# Altium schematic symbol library Evaluation Board.SchLib: 204 symbols (part 1 of 3)
Pins are listed as number, name and electrical type; pins without a type are passive.

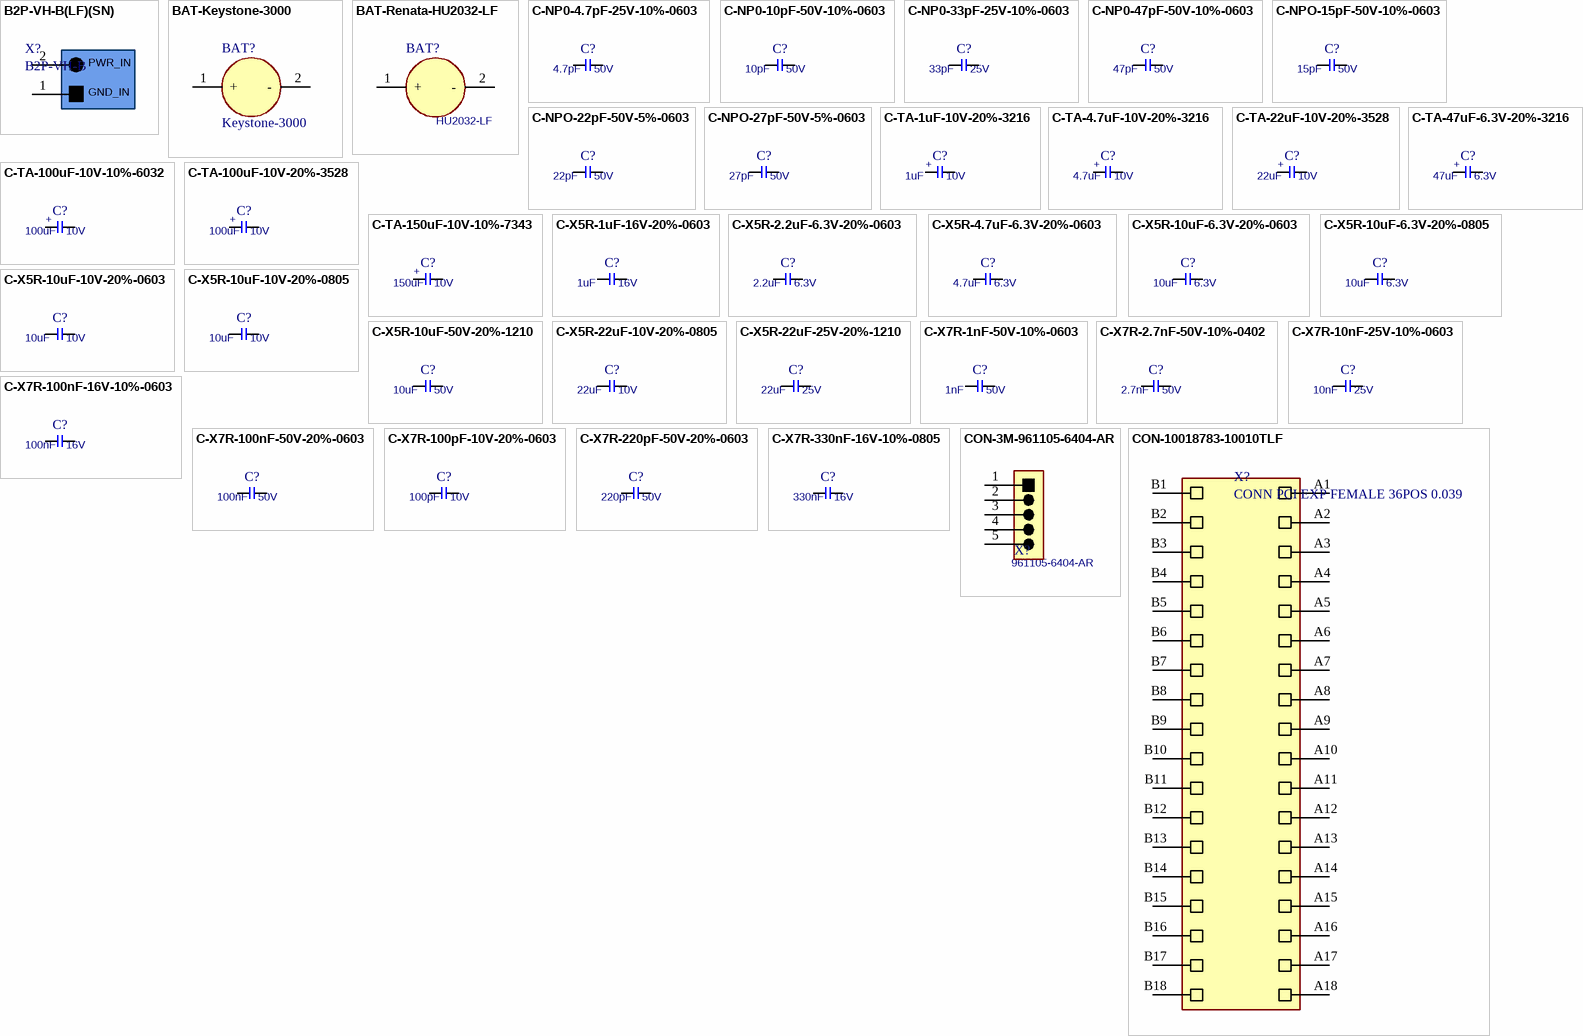
[diagram p0: symbols B2P-VH-B(LF)(SN) to CON-10018783-10010TLF]

## B2P-VH-B(LF)(SN)
designator X?, comment B2P-VH-B
CONN HEADER TOP 2POS 3.96MM VH; Manufacturer Part Number: B2P-VH-B(LF)(SN); Manufacturer: JST; Number of Positions: 2; Connector Type: Male Pin; Pitch: 0.156inch; PCBChecked: initials after Checked; Supplier 1: RSComponents; RoHS: Yes; Category: Connectors; Mount: Through Hole; Color: Natural; Contact Plating: Tin; Termination: Solder; Number of Rows: 1; Fastening Type: Friction,Ramp; Packaging: Bulk; Contact Mating Length: 0.303inch; Lead Free: Lead Free; ComponentLink1URL: https://datasheet.ciiva.com/6853/evh-6853485.pdf?src-supplier=Digi-Key; ComponentLink1Description: https://datasheet.ciiva.com/6853/evh-6853485.pdf?src-supplier=Digi-Key; ComponentLink2URL: https://datasheet.ciiva.com/16358/b2p-vh-blfsn-16358717.pdf?src-supplier=Future+Electronics; ComponentLink2Description: https://datasheet.ciiva.com/16358/b2p-vh-blfsn-16358717.pdf?src-supplier=Future+Electronics; Supplier Part Number 1: 7495193; Pricing 1: 50=0,19300, 500=0,16400, 1250=0,15500, 2500=0,14500, 5000=0,13500 (EUR); IPC7352C: initials after Checked; SCHChecked: initials after Checked
footprint CON-B2P-VH-B-3.96mm (Power Connector 3.96mm pitch)
pins: 1 GND_IN, 2 PWR_IN

## BAT-Keystone-3000
designator BAT?, comment Keystone-3000
Battery Holder; Manufacturer Part No.: 3000; PCBChecked: initials after Checked; Manufacturer Name: Keystone; IPC7352C: initials after Checked; SCHChecked: initials after Checked
footprint T_Keystone_3000 (Battery Holder)
pins: 1 +, 2 -

## BAT-Renata-HU2032-LF
designator BAT?, comment HU2032-LF
C2032 Battery Holder; Manufacturer Name: Renata; PCBChecked: initials after Checked; Manufacturer Part No.: HU2032-LF; IPC7352C: initials after Checked; SCHChecked: initials after Checked
footprint T_Renata_HU2032-LF (Battery Holder)
pins: 1 +, 2 -

## C-NP0-4.7pF-25V-10%-0603
designator C?, comment Rating: 50V  (hidden comment: 4.7pF)
Capacitor Ceramic NP0  4.7pF 25V 10% 0603; PCBChecked: initials after Checked; Tolerance: 10%; Type: NP0; Value: 4.7pF; IPC7352C: initials after Checked; SCHChecked: initials after Checked
footprint T_CAPC0603X33N
pins: 1, 2

## C-NP0-10pF-50V-10%-0603
designator C?, comment Rating: 50V  (hidden comment: 10pF)
Capacitor Ceramic NP0 10pF 50V 10% 0603; PCBChecked: initials after Checked; Tolerance: 10%; Type: NP0; Value: 10pF; IPC7352C: initials after Checked; SCHChecked: initials after Checked
footprint T_CAPC0603X33N
pins: 1, 2

## C-NP0-33pF-25V-10%-0603
designator C?, comment Rating: 25V  (hidden comment: 33pF)
Capacitor Ceramic NP0 33pF 25V 10% 0603; PCBChecked: initials after Checked; Tolerance: 10%; Type: NP0; IPC7352C: initials after Checked; SCHChecked: initials after Checked; Value: 33pF
footprint T_CAPC0603X33N
pins: 1, 2

## C-NP0-47pF-50V-10%-0603
designator C?, comment Rating: 50V  (hidden comment: 47pF)
Capacitor Ceramic NP0 47pF 50V 10% 0603; PCBChecked: initials after Checked; Tolerance: 10%; Type: NP0; Value: 47pF; IPC7352C: initials after Checked; SCHChecked: initials after Checked
footprint T_CAPC0603X33N
pins: 1, 2

## C-NPO-15pF-50V-10%-0603
designator C?, comment Rating: 50V  (hidden comment: 15pF)
Capacitor Ceramic NPO 15pF 50V 10% 0603; PCBChecked: initials after Checked; Tolerance: 10%; Type: NPO; IPC7352C: initials after Checked; SCHChecked: initials after Checked; Value: 15pF
footprint T_CAPC0603X33N
pins: 1, 2

## C-NPO-22pF-50V-5%-0603
designator C?, comment Rating: 50V  (hidden comment: 22pF)
Capacitor Ceramic NPO 22pF 50V 5% 0603; PCBChecked: initials after Checked; Tolerance: 5%; Type: NPO; Value: 22pF; IPC7352C: initials after Checked; SCHChecked: initials after Checked
footprint T_CAPC0603X33N
pins: 1, 2

## C-NPO-27pF-50V-5%-0603
designator C?, comment Rating: 50V  (hidden comment: 27pF)
Capacitor Ceramic NPO 27pF 50V 5% 0603; PCBChecked: initials after Checked; Tolerance: 5%; Type: NPO; Value: 27pF; IPC7352C: initials after Checked; SCHChecked: initials after Checked
footprint T_CAPC0603X33N
pins: 1, 2

## C-TA-1uF-10V-20%-3216
designator C?, comment Rating: 10V  (hidden comment: 1uF)
Capacitor TA 1uF 10V 20% 3216; PCBChecked: initials after Checked; Tolerance: 20%; Type: TA; Value: 1uF; IPC7352C: initials after Checked; SCHChecked: initials after Checked
footprint T_CAPMP3216X180N
pins: 1, 2
text: +

## C-TA-4.7uF-10V-20%-3216
designator C?, comment Rating: 10V  (hidden comment: 4.7uF)
Capacitor TA 4.7uF 10V 20% 3216; PCBChecked: initials after Checked; Tolerance: 20%; Type: TA; IPC7352C: initials after Checked; SCHChecked: initials after Checked; Value: 4.7uF
footprint T_CAPMP3216X180N
pins: 1, 2
text: +

## C-TA-22uF-10V-20%-3528
designator C?, comment Rating: 10V  (hidden comment: 22uF)
Capacitor TA 22uF 10V 20% 3528; PCBChecked: initials after Checked; Tolerance: 20%; Type: TA; IPC7352C: initials after Checked; SCHChecked: initials after Checked; Value: 22uF
footprint CAPMP3528X210N
pins: 1, 2
text: +

## C-TA-47uF-6.3V-20%-3216
designator C?, comment Rating: 6.3V  (hidden comment: 47uF)
Capacitor TA 47uF 6.3V 20% 3216; PCBChecked: initials after Checked; Tolerance: 20%; Type: TA; IPC7352C: initials after Checked; SCHChecked: initials after Checked; Value: 47uF
footprint CAPMP3528X210N
pins: 1, 2
text: +

## C-TA-100uF-10V-10%-6032
designator C?, comment Rating: 10V  (hidden comment: 100uF)
Capacitor TA 100uF 10V 10% 6032; PCBChecked: initials after Checked; Tolerance: 10%; Type: TA; Value: 100uF; IPC7352C: initials after Checked; SCHChecked: initials after Checked
footprint CAPMP6032X280N (Cap Polarized 6032)
pins: 1, 2
text: +

## C-TA-100uF-10V-20%-3528
designator C?, comment Rating: 10V  (hidden comment: 100uF)
Capacitor TA 100uF 10V 20% 3528; PCBChecked: initials after Checked; Tolerance: 20%; Type: TA; IPC7352C: initials after Checked; SCHChecked: initials after Checked; Value: 100uF
footprint CAPMP3528X210N
pins: 1, 2
text: +

## C-TA-150uF-10V-10%-7343
designator C?, comment Rating: 10V  (hidden comment: 150uF)
Capacitor TA 150uF 10V 20% 7343; Tolerance: 10%; PCBChecked: initials after Checked; Type: TA; IPC7352C: initials after Checked; SCHChecked: initials after Checked; Value: 150uF
footprint CAPMP7343X310N
pins: 1, 2
text: +

## C-X5R-1uF-16V-20%-0603
designator C?, comment Rating: 16V  (hidden comment: 1uF)
Capacitor Ceramic X5R 1uF 16V 20% 0603; PCBChecked: initials after Checked; Tolerance: 20%; Type: X5R; Value: 1uF; IPC7352C: initials after Checked; SCHChecked: initials after Checked
footprint T_CAPC0603X33N
pins: 1, 2

## C-X5R-2.2uF-6.3V-20%-0603
designator C?, comment Rating: 6.3V  (hidden comment: 2.2uF)
Capacitor Ceramic X5R 2.2uF 6.3V 20% 0603; PCBChecked: initials after Checked; Tolerance: 20%; Type: X5R; Value: 2.2uF; IPC7352C: initials after Checked; SCHChecked: initials after Checked
footprint T_CAPC0603X33N
pins: 1, 2

## C-X5R-4.7uF-6.3V-20%-0603
designator C?, comment Rating: 6.3V  (hidden comment: 4.7uF)
Capacitor Ceramic X5R 4.7uF 6.3V 20% 0603; PCBChecked: initials after Checked; Tolerance: 20%; Type: X5R; Value: 4.7uF; IPC7352C: initials after Checked; SCHChecked: initials after Checked
footprint T_CAPC0603X33N
pins: 1, 2

## C-X5R-10uF-6.3V-20%-0603
designator C?  value 10uF  Rating: 6.3V
Capacitor Ceramic X5R 10uF 6.3V 20% 0603; PCBChecked: initials after Checked; Tolerance: 20%; Type: X5R; IPC7352C: initials after Checked; SCHChecked: initials after Checked
footprint T_CAPC0603X33N
pins: 1, 2

## C-X5R-10uF-6.3V-20%-0805
designator C?, comment Rating: 6.3V  (hidden comment: 10uF)
Capacitor Ceramic X5R 10uF 6.3V 20% 0805; PCBChecked: initials after Checked; Tolerance: 20%; Type: X5R; Value: 10uF; IPC7352C: initials after Checked; SCHChecked: initials after Checked
footprint T_CAPC0805X125N
pins: 1, 2

## C-X5R-10uF-10V-20%-0603
designator C?  value 10uF  Rating: 10V
Capacitor Ceramic X5R 10uF 10V 20% 0603; PCBChecked: initials after Checked; Tolerance: 20%; Type: X5R; IPC7352C: initials after Checked; SCHChecked: initials after Checked
footprint T_CAPC0603X33N
pins: 1, 2

## C-X5R-10uF-10V-20%-0805
designator C?, comment Rating: 10V  (hidden comment: 10uF)
Capacitor Ceramic X5R 10uF 10V 20% 0805; PCBChecked: initials after Checked; Tolerance: 20%; Type: X5R; IPC7352C: initials after Checked; SCHChecked: initials after Checked; Value: 10uF
footprint T_CAPC0805X125N
pins: 1, 2

## C-X5R-10uF-50V-20%-1210
designator C?, comment Rating: 50V  (hidden comment: 10uF)
Capacitor Ceramic X5R 10uF 50V 20% 1210; PCBChecked: initials after Checked; Tolerance: 20%; Type: X5R; Value: 10uF; IPC7352C: initials after Checked; SCHChecked: initials after Checked
footprint CAPC3225X160N
pins: 1, 2

## C-X5R-22uF-10V-20%-0805
designator C?, comment Rating: 10V  (hidden comment: 22uF)
Capacitor Ceramic X5R 22uF 10V 20% 0805; PCBChecked: initials after Checked; Tolerance: 20%; Type: X5R; Value: 22uF; IPC7352C: initials after Checked; SCHChecked: initials after Checked
footprint T_CAPC0805X125N
pins: 1, 2

## C-X5R-22uF-25V-20%-1210
designator C?, comment Rating: 25V  (hidden comment: 22uF)
Capacitor Ceramic X5R 22uF 25V 20% 1210; PCBChecked: initials after Checked; Tolerance: 20%; Type: X5R; Value: 22uF; IPC7352C: initials after Checked; SCHChecked: initials after Checked
footprint CAPC3225X160N
pins: 1, 2

## C-X7R-1nF-50V-10%-0603
designator C?, comment Rating: 50V  (hidden comment: 1nF)
Capacitor Ceramic X7R 1nF 50V 10% 0603; PCBChecked: initials after Checked; Tolerance: 10%; Type: X7R; Value: 1nF; IPC7352C: initials after Checked; SCHChecked: initials after Checked
footprint T_CAPC0603X33N
pins: 1, 2

## C-X7R-2.7nF-50V-10%-0402
designator C?, comment Rating: 50V  (hidden comment: 2.7nF)
Capacitor Ceramic X7R 2.7nF 50V 10% 0402; PCBChecked: initials after Checked; Tolerance: 10%; Type: X7R; Value: 2.7nF; IPC7352C: initials after Checked; SCHChecked: initials after Checked
footprint CAPC1005X60N
pins: 1, 2

## C-X7R-10nF-25V-10%-0603
designator C?, comment Rating: 25V  (hidden comment: 10nF)
Capacitor Ceramic X7R 10nF 25V 10% 0603; PCBChecked: initials after Checked; Tolerance: 10%; Type: X7R; Value: 10nF; IPC7352C: initials after Checked; SCHChecked: initials after Checked
footprint T_CAPC0603X33N
pins: 1, 2

## C-X7R-100nF-16V-10%-0603
designator C?, comment Rating: 16V  (hidden comment: 100nF)
Capacitor Ceramic X7R 100nF 16V 10% 0603; PCBChecked: initials after Checked; Tolerance: 10%; Type: X7R; Value: 100nF; IPC7352C: initials after Checked; SCHChecked: initials after Checked
footprint T_CAPC0603X33N
pins: 1, 2

## C-X7R-100nF-50V-20%-0603
designator C?, comment Rating: 50V  (hidden comment: 100nF)
Capacitor Ceramic X7R 100nF 50V 20% 0603; PCBChecked: initials after Checked; Tolerance: 20%; Type: X7R; Value: 100nF; IPC7352C: initials after Checked; SCHChecked: initials after Checked
footprint T_CAPC0603X33N
pins: 1, 2

## C-X7R-100pF-10V-20%-0603
designator C?, comment Rating: 10V  (hidden comment: 100pF)
Capacitor Ceramic X7R 100pF 10V 20% 0603; PCBChecked: initials after Checked; Tolerance: 20%; Type: X7R; Value: 100pF; IPC7352C: initials after Checked; SCHChecked: initials after Checked
footprint T_CAPC0603X33N
pins: 1, 2

## C-X7R-220pF-50V-20%-0603
designator C?, comment Rating: 50V  (hidden comment: 220pF)
Capacitor Ceramic X7R 220pF 50V 20% 0603; PCBChecked: initials after Checked; Tolerance: 20%; Type: X7R; Value: 220pF; IPC7352C: initials after Checked; SCHChecked: initials after Checked
footprint T_CAPC0603X33N
pins: 1, 2

## C-X7R-330nF-16V-10%-0805
designator C?, comment Rating: 16V  (hidden comment: 330nF)
Capacitor Ceramic X7R 330nF 16V 10% 0805; PCBChecked: initials after Checked; Tolerance: 10%; Type: X7R; IPC7352C: initials after Checked; SCHChecked: initials after Checked; Value: 330nF
footprint T_CAPC0805X125N
pins: 1, 2

## CON-3M-961105-6404-AR
designator X?, comment 961105-6404-AR
Audio Header 5 pins 2.54mm; Manufacturer Name: 3M; No. of ways: 1X5; PCBChecked: initials after Checked; Pitch: 2.54mm; IPC7352C: initials after Checked; SCHChecked: initials after Checked; Manufacturer Part No.: 961105-6404-AR
footprint T_3M_961105-6404-AR (Connector; Header; 35 Position)
pins: 1, 2, 3, 4, 5

## CON-10018783-10010TLF
designator X?, comment CONN PCI EXP FEMALE 36POS 0.039
Manufacturer Part Number: 10018783-10010TLF; Manufacturer: Amphenol FCI; Current Rating: 1.1A; Voltage Rating (AC): 300V; Number of Positions: 36; Insulation Resistance: 1GR; Connector Type: Cantilever; Pitch: 2mm; Board Thickness: 2.36mm; Card Thickness: 0.062inch; PCBChecked: initials after Checked; Supplier 1: Digi-Key; RoHS: Yes; Category: Card Edge Connectors; Mount: Through Hole; Contact Plating: Gold,Tin,Matte; Contact Material: Copper Alloy; Color: Black; Housing Color: Black; Housing Material: Nylon; Insulation Material: Nylon; Min Operating Temperature: -55°C; Max Operating Temperature: 85°C; Number of Rows: 2; Packaging: Tray; Package Quantity: 70; Gender: Female; Termination: Solder; Max Voltage Rating (AC): 300V; Orientation: Straight; Length: 25mm; Width: 7.4mm; Lead Free: Lead Free; Flammability Rating: UL94 V-0; ComponentLink1URL: https://datasheet.ciiva.com/12534/gs-12-233-532843-12534444.pdf?src-supplier=Mouser; ComponentLink1Description: https://datasheet.ciiva.com/12534/gs-12-233-532843-12534444.pdf?src-supplier=Mouser; ComponentLink2URL: https://datasheet.ciiva.com/417/10018783-417663.pdf?src-supplier=Digi-Key; ComponentLink2Description: https://datasheet.ciiva.com/417/10018783-417663.pdf?src-supplier=Digi-Key; ComponentLink3URL: https://datasheet.ciiva.com/3099/10018783-3099391.pdf?src-supplier=Avnet; ComponentLink3Description: https://datasheet.ciiva.com/3099/10018783-3099391.pdf?src-supplier=Avnet; Supplier Part Number 1: 609-1964-ND; Stock 1: 32064; IPC7352C: initials after Checked; SCHChecked: initials after Checked
footprint 10018783-10010TLF (CONN PCI EXP FEMALE 36POS 0.039)
pins: A1, A2, A3, A4, A5, A6, A7, A8, A9, A10, A11, A12, A13, A14, A15, A16, A17, A18, B1, B2, B3, B4, B5, B6, B7, B8, B9, B10, B11, B12, B13, B14, B15, B16, B17, B18

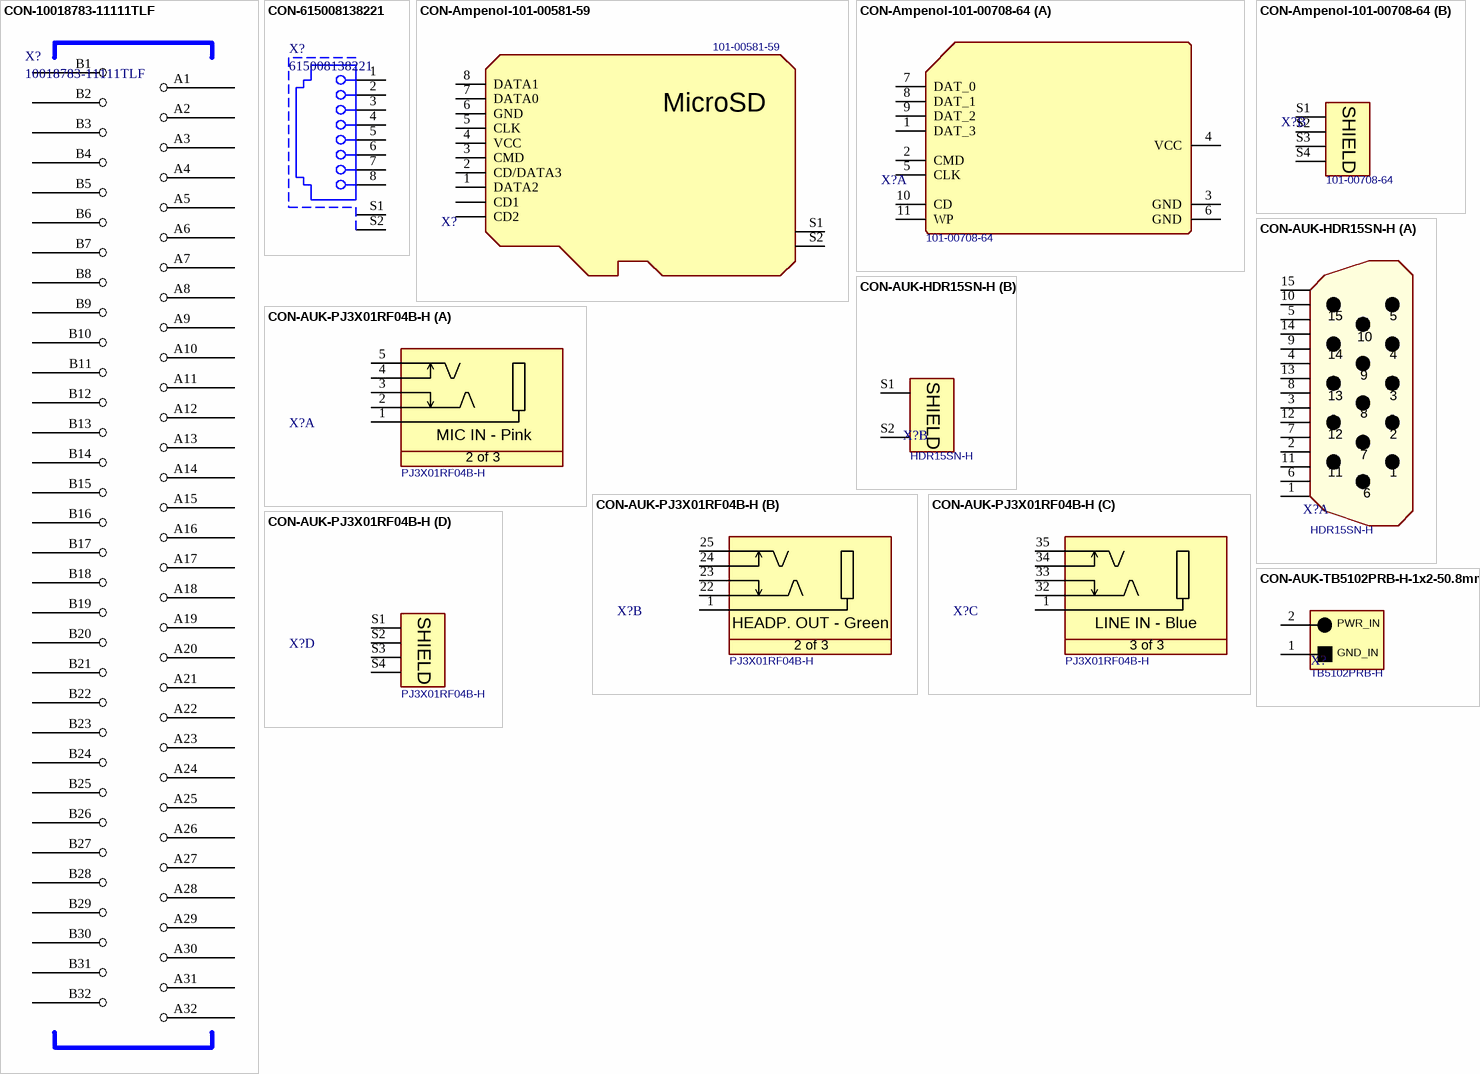
[diagram p1: symbols CON-10018783-11111TLF to CON-AUK-TB5102PRB-H-1x2-50.8mm]

## CON-10018783-11111TLF
designator X?, comment 10018783-11111TLF
AMPHENOL ICC (FCI) - 10018783-11111TLF - CONNECTOR, PCI, 2X32WAY; Manufacturer: Amphenol FCI; Number of Contacts: 64; Gender: Female; Current Rating: 1.1A; Voltage Rating (AC): 300V; Contact Resistance: 30mR; Mating Cycles: 50; Insulation Resistance: 1GR; Connector Type: Cantilever; Pitch: 2mm; Board Thickness: 2.36mm; Pin Length: 3.1mm; Card Thickness: 0.062inch; PCBChecked: initials after Checked; Supplier 1: Digi-Key; Manufacturer Part Number: 10018783-11111TLF; RoHS: Yes; Category: Card Edge Connectors; Mount: Through Hole,PCB; Contact Plating: Gold,Tin,Matte; Contact Material: Copper Alloy; Color: Black; Material: Nylon,Glass; Housing Color: Black; Insulation Material: Nylon; Housing Material: Nylon; Min Operating Temperature: -55°C; Max Operating Temperature: 85°C; Number of Rows: 2; Termination: Solder; Package Quantity: 60; Packaging: Tray; Number of Positions: 64; Max Voltage Rating (AC): 300V; Orientation: Straight; Length: 39mm; Height: 11.25mm; Lead Pitch: 1mm; Width: 11.25mm; Depth: 8.8mm; Row Spacing: 2mm; Tail Length: 2.36mm; REACH SVHC: No SVHC; Lead Free: Lead Free; Flammability Rating: UL94 V-0; ComponentLink1URL: https://datasheet.ciiva.com/11732/0900766b807b50f6-11732962.pdf?src-supplier=RSComponents; ComponentLink1Description: https://datasheet.ciiva.com/11732/0900766b807b50f6-11732962.pdf?src-supplier=RSComponents; ComponentLink2URL: https://datasheet.ciiva.com/14636/0900766b807b50f6-14636453.pdf?src-supplier=Allied+Electronics; ComponentLink2Description: https://datasheet.ciiva.com/14636/0900766b807b50f6-14636453.pdf?src-supplier=Allied+Electronics; ComponentLink3URL: https://datasheet.ciiva.com/417/10018783-417603.pdf?src-supplier=Digi-Key; ComponentLink3Description: https://datasheet.ciiva.com/417/10018783-417603.pdf?src-supplier=Digi-Key; ComponentLink4URL: https://datasheet.ciiva.com/5671/gs-12-233-532843-5671048.pdf?src-supplier=Mouser; ComponentLink4Description: https://datasheet.ciiva.com/5671/gs-12-233-532843-5671048.pdf?src-supplier=Mouser; ComponentLink5URL: https://datasheet.ciiva.com/16666/10018783-16666568.pdf?src-supplier=Avnet+Europe; ComponentLink5Description: https://datasheet.ciiva.com/16666/10018783-16666568.pdf?src-supplier=Avnet+Europe; ComponentLink6URL: https://datasheet.ciiva.com/3099/10018783-3099434.pdf?src-supplier=Avnet; ComponentLink6Description: https://datasheet.ciiva.com/3099/10018783-3099434.pdf?src-supplier=Avnet; Supplier Part Number 1: 609-1996-ND; Stock 1: 3867; IPC7352C: initials after Checked; SCHChecked: initials after Checked
footprint 10018783-11111TLF _kor (CONN PCI EXP FEMALE 64POS 0.039)
pins: A1, A2, A3, A4, A5, A6, A7, A8, A9, A10, A11, A12, A13, A14, A15, A16, A17, A18, A19, A20, A21, A22, A23, A24, A25, A26, A27, A28, A29, A30, A31, A32, B1, B2, B3, B4, B5, B6, B7, B8, B9, B10, B11, B12, B13, B14, B15, B16, B17, B18, B19, B20, B21, B22, B23, B24, B25, B26, B27, B28, B29, B30, B31, B32

## CON-615008138221
designator X?, comment 615008138221
WURTH ELEKTRONIK - 615008138221 - JACK, RJ45, VERT, 8P8C, SHIELDED; Manufacturer: Wurth Electronics; Number of Ports: 1; Direction: User Selectable; Connector Type: Jack,RJ45,Socket; Number of Contacts: 8; Gender: Female; Current Rating: 1.5A; Mating Cycles: 500; Voltage Rating: 125V; Supplier 1: Digi-Key; Manufacturer Part Number: 615008138221; RoHS: Yes; Category: Connectors; Mount: Through Hole; Contact Material: Copper Alloy,Copper; Housing Material: PBT; Contact Plating: Gold; Color: Black; Min Operating Temperature: -40°C; Max Operating Temperature: 85°C; Termination: Through Hole; Package Quantity: 80; Number of Rows: 1; Shielding: Shielded; Packaging: Tray; Number of Positions: 8; Orientation: Vertical; Length: 16.65mm; Height: 16.65mm; Depth: 16.4mm; Width: 15.9mm; REACH SVHC: Unknown; ComponentLink1URL: https://datasheet.ciiva.com/685/615008138221-685840.pdf?src-supplier=Digi-Key; ComponentLink1Description: https://datasheet.ciiva.com/685/615008138221-685840.pdf?src-supplier=Digi-Key; ComponentLink2URL: https://datasheet.ciiva.com/11726/0900766b80f88675-11726117.pdf?src-supplier=RSComponents; ComponentLink2Description: https://datasheet.ciiva.com/11726/0900766b80f88675-11726117.pdf?src-supplier=RSComponents; ComponentLink3URL: https://datasheet.ciiva.com/4561/615008138221-83706-4561590.pdf?src-supplier=Mouser; ComponentLink3Description: https://datasheet.ciiva.com/4561/615008138221-83706-4561590.pdf?src-supplier=Mouser; ComponentLink4URL: https://datasheet.ciiva.com/1108/1666696-1108142.pdf?src-supplier=Element14; ComponentLink4Description: https://datasheet.ciiva.com/1108/1666696-1108142.pdf?src-supplier=Element14; ComponentLink5URL: https://datasheet.ciiva.com/48689/001088217-da-01-en-wr-com-modular-jack-615008138221-48689543.pdf?src-supplier=Conrad; ComponentLink5Description: https://datasheet.ciiva.com/48689/001088217-da-01-en-wr-com-modular-jack-615008138221-48689543.pdf?src-supplier=Conrad; Supplier Part Number 1: 732-2743-ND; Stock 1: 4282
footprint RJ45-V-615008138221 (RJ45 Vertical  Shielded)
pins: 1, 2, 3, 4, 5, 6, 7, 8, S1, S2

## CON-Ampenol-101-00581-59
designator X?, comment Manufacturer Part No.: 101-00581-59  (hidden comment: MicroSD Holder)
Micro SD Holder Push Push CD; Manufacturer Name: Ampenol; No. of ways: 9; PCBChecked: initials after Checked; IPC7352C: initials after Checked; SCHChecked: initials after Checked
footprint T_Ampenol_101-00581-59 (MicroSD Holder top-loading type)
pins: 1 DATA2 (power), 2 CD/DATA3, 3 CMD, 4 VCC, 5 CLK (power), 6 GND (power), 7 DATA0 (power), 8 DATA1 (power), CD1 (power), CD2 (power), S1 S, S2 S
text: MicroSD

## CON-Ampenol-101-00708-64
designator X?, comment Manufacturer Part No.: 101-00708-64  (hidden comment: MicroSD Holder)
SD/MMC Card Holder; Manufacturer Name: Ampenol; No. of ways: 9; PCBChecked: initials after Checked; IPC7352C: initials after Checked; SCHChecked: initials after Checked
footprint T_ AMPHENOL_101-00708-64 (SD/MMC Card Holder)
part A pins: 1 DAT_3 (power), 2 CMD, 3 GND, 4 VCC, 5 CLK (power), 6 GND (power), 7 DAT_0 (power), 8 DAT_1 (power), 9 DAT_2 (power), 10 CD (power), 11 WP (power)
part B pins: S1 S, S2 S, S3 S, S4 S
part B text: SHIELD

## CON-AUK-HDR15SN-H
designator X?, comment HDR15SN-H
15 pin male D-SUB connector; Manufacturer Name: AUK; No. of ways: 15; PCBChecked: initials after Checked; IPC7352C: initials after Checked; SCHChecked: initials after Checked; Manufacturer Part No.: HDR15SN-H
footprint T_AUK_HDR15SN-H (15 pin male D-SUB connector)
part A pins: 1 DCD, 2 RXD, 3 TXD, 4 DTR, 5 GND, 6 DSR, 7 RTS, 8 CTS, 9 RI, 10 RI, 11 RI, 12 RI, 13 RI, 14 RI, 15 RI
part B pins: S1 SHIELD, S2 SHIELD

## CON-AUK-PJ3X01RF04B-H
designator X?, comment Manufacturer Part No.: PJ3X01RF04B-H  (hidden comment: AUK-PJ3X01RF04B-H)
3x Audiojack stereo, 3.5mm; Manufacturer Name: AUK; No. of ways: 13; PCBChecked: initials after Checked; IPC7352C: initials after Checked; SCHChecked: initials after Checked
footprint T_AUK_PJ3X01RF04B-H (Audio Jack Triple Stacked DIP Type)
part A pins: 1, 2, 3, 4, 5
part B pins: 1, 22, 23, 24, 25
part C pins: 1, 32, 33, 34, 35
part D pins: S1 SHIELD, S2 SHIELD, S3 SHIELD, S4 SHIELD
part A text: MIC IN - Pink; 2 of 3
part B text: HEADP. OUT - Green; 2 of 3
part C text: LINE IN - Blue; 3 of 3

## CON-AUK-TB5102PRB-H-1x2-50.8mm
designator X?, comment TB5102PRB-H
Power Connector; Manufacturer Name: AUK; No. of ways: 1x2; Pitch: 5.08mm; PCBChecked: initials after Checked; IPC7352C: initials after Checked; SCHChecked: initials after Checked; Manufacturer Part No.: TB5102PRB-H
footprint T_AUK_TB5102PRB-H (Power Connector 5.08mm pitch)
pins: 1 GND_IN, 2 PWR_IN

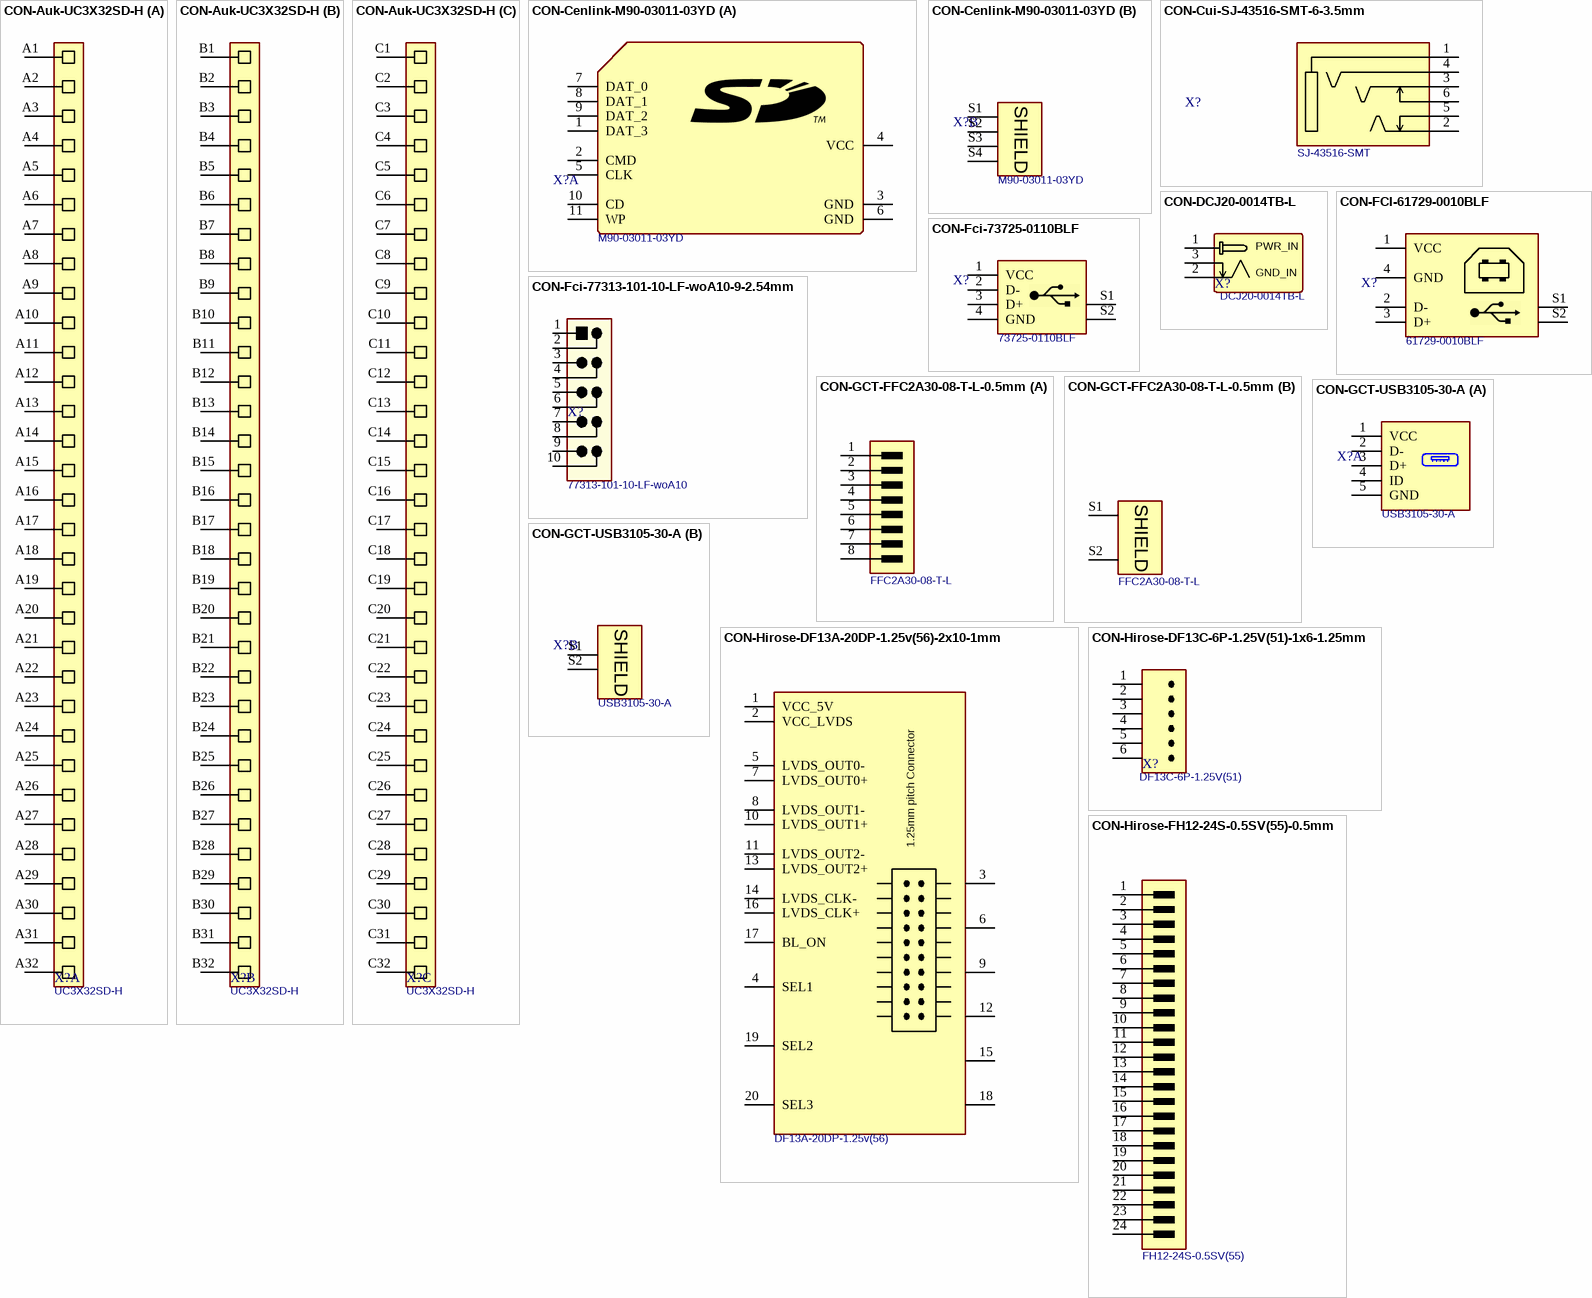
[diagram p2: symbols CON-Auk-UC3X32SD-H to CON-Hirose-FH12-24S-0.5SV(55)-0.5mm]

## CON-Auk-UC3X32SD-H
designator X?, comment UC3X32SD-H
Header Female 3x32 pin 2.54mm; Manufacturer Name: Auk; PCBChecked: initials after Checked; Pitch: 2.54mm; No. of ways: 3x32; IPC7352C: initials after Checked; SCHChecked: initials after Checked; Manufacturer Part No.: UC3X32SD-H
footprint T_AUK_UC3X32SD-H (Header, 3x32 Pins, 2.54 mm pitch)
part A pins: A1, A2, A3, A4, A5, A6, A7, A8, A9, A10, A11, A12, A13, A14, A15, A16, A17, A18, A19, A20, A21, A22, A23, A24, A25, A26, A27, A28, A29, A30, A31, A32
part B pins: B1, B2, B3, B4, B5, B6, B7, B8, B9, B10, B11, B12, B13, B14, B15, B16, B17, B18, B19, B20, B21, B22, B23, B24, B25, B26, B27, B28, B29, B30, B31, B32
part C pins: C1, C2, C3, C4, C5, C6, C7, C8, C9, C10, C11, C12, C13, C14, C15, C16, C17, C18, C19, C20, C21, C22, C23, C24, C25, C26, C27, C28, C29, C30, C31, C32

## CON-Cenlink-M90-03011-03YD
designator X?, comment Manufacturer Part No.: M90-03011-03YD  (hidden comment: MicroSD Holder)
SD/MMC Card Holder; Manufacturer Name: Cenlink; No. of ways: 9+2; PCBChecked: initials after Checked; IPC7352C: initials after Checked; SCHChecked: initials after Checked
footprint T_ AMPHENOL_101-00708-64 (SD/MMC Card Holder)
part A pins: 1 DAT_3 (power), 2 CMD, 3 GND, 4 VCC, 5 CLK (power), 6 GND (power), 7 DAT_0 (power), 8 DAT_1 (power), 9 DAT_2 (power), 10 CD (power), 11 WP (power)
part B pins: S1 S, S2 S, S3 S, S4 S
part B text: SHIELD

## CON-Cui-SJ-43516-SMT-6-3.5mm
designator X?, comment SJ-43516-SMT
3.5mm Stereo Jack SMD With Detect Contact; Manufacturer Name: Cui INC; No. of ways: 6; PCBChecked: initials after Checked; IPC7352C: initials after Checked; SCHChecked: initials after Checked; Manufacturer Part No.: SJ-43516-SMT
footprint T_CI_SJ-43516-SMT (STEREO_3.5mm AUDIO JACK  CUI)
pins: 1, 2, 3, 4, 5, 6

## CON-DCJ20-0014TB-L
designator X?, comment DCJ20-0014TB-L
Power Jack; PCBChecked: initials after Checked; IPC7352C: initials after Checked; SCHChecked: initials after Checked; Manufacturer Part No.: DCJ20-0014TB-L
footprint T_DCJ20-0014TB-L (Header, 1x2 Pins, 2.54 mm pitch, male)
pins: 1 GND_IN, 2 PWR_IN, 3 PWR_IN

## CON-FCI-61729-0010BLF
designator X?, comment 61729-0010BLF
USB Type B Connector; Manufacturer Name: FCI; No. of ways: 4; PCBChecked: initials after Checked; IPC7352C: initials after Checked; SCHChecked: initials after Checked; Manufacturer Part No.: 61729-0010BLF
footprint T_FCI_61729-0010BLF (USB Type B Connectors)
pins: 1 VCC (power), 2 D-, 3 D+, 4 GND (power), S1, S2

## CON-Fci-73725-0110BLF
designator X?  Manufacturer Part No.: 73725-0110BLF
USB Type A Connector; Manufacturer Name: FCI; No. of ways: 4; PCBChecked: initials after Checked; IPC7352C: initials after Checked; SCHChecked: initials after Checked
footprint T_FCI_73725-0110BLF (USB Type A Connector Vertical)
pins: 1 VCC (power), 2 D-, 3 D+, 4 GND (power), S1, S2

## CON-Fci-77313-101-10-LF-woA10-9-2.54mm
designator X?, comment 77313-101-10-LF-woA10
RS232 Header; Manufacturer Name: FCI; No. of ways: 9; PCBChecked: initials after Checked; IPC7352C: initials after Checked; SCHChecked: initials after Checked; Manufacturer Part No.: 77313-101-10-LF-woA10
footprint T_FCI_77313-101-10-LF-woA10 (2.54 mm header)
pins: 1, 2, 3, 4, 5, 6, 7, 8, 9, 10

## CON-GCT-FFC2A30-08-T-L-0.5mm
designator X?, comment FFC2A30-08-T-L
0.50mm Pitch FFC/FPC JTAG Connector Vertical; Manufacturer Name: GCT; No. of ways: 8; Pitch: 0.5mm; PCBChecked: initials after Checked; IPC7352C: initials after Checked; SCHChecked: initials after Checked; Manufacturer Part No.: FFC2A30-08-T-L
footprint T_GCT_FFC2A30-08-T-L (JTAG FFC Connector 0.5mm pitch vertical)
part A pins: 1, 2, 3, 4, 5, 6, 7, 8
part B pins: S1 SHIELD, S2 SHIELD

## CON-GCT-USB3105-30-A
designator X?  Manufacturer Part No.: USB3105-30-A
Micro USB OTG Connector - TH - Vertical; Manufacturer Name: GCT; No. of ways: 5; PCBChecked: initials after Checked; IPC7352C: initials after Checked; SCHChecked: initials after Checked
footprint T_GCT_USB3105-30-A (Micro USB Connector Vertical)
part A pins: 1 VCC (power), 2 D-, 3 D+, 4 ID, 5 GND (power)
part B pins: S1 SHIELD, S2 SHIELD

## CON-Hirose-DF13A-20DP-1.25v(56)-2x10-1mm
designator X?  Manufacturer Part No.: DF13A-20DP-1.25v(56)  (hidden comment: CON-Hirose-DF13A-20DP-1.25v(56)-2x10-1mm)
LVDS Connector; Manufacturer Name: Hirose; No. of ways: 2x10; Pitch: 1mm; PCBChecked: initials after Checked; IPC7352C: initials after Checked; SCHChecked: initials after Checked
footprint T_HIROSE_DF13A-20DP-1.25V(56)
pins: 1 VCC_5V, 2 VCC_LVDS, 3 GND, 4 SEL1, 5 LVDS_OUT0-, 6 GND, 7 LVDS_OUT0+, 8 LVDS_OUT1-, 9 GND, 10 LVDS_OUT1+, 11 LVDS_OUT2-, 12 GND, 13 LVDS_OUT2+, 14 LVDS_CLK-, 15 GND, 16 LVDS_CLK+, 17 BL_ON, 18 GND, 19 SEL2, 20 SEL3
text: 1.25mm pitch Connector

## CON-Hirose-DF13C-6P-1.25V(51)-1x6-1.25mm
designator X?, comment DF13C-6P-1.25V(51)
Touch Connector; Manufacturer Name: Hirose; No. of ways: 1X6; Pitch: 1.25mm; PCBChecked: initials after Checked; IPC7352C: initials after Checked; SCHChecked: initials after Checked; Manufacturer Part No.: DF13C-6P-1.25V(51)
footprint T_HIROSE_DF13C-6P-1.25V(51) (Touch connector)
pins: 1 GND, 2 TSMY, 3 TSPY, 4 TSMX, 5 TSPX, 6 WIPER

## CON-Hirose-FH12-24S-0.5SV(55)-0.5mm
designator X?, comment FH12-24S-0.5SV(55)
0.50mm Pitch FFC/FPC Vertical DVI Connector; Manufacturer Name: Hirose; No. of ways: 24; Pitch: 0.5mm; PCBChecked: initials after Checked; IPC7352C: initials after Checked; SCHChecked: initials after Checked; Manufacturer Part No.: FH12-24S-0.5SV(55)
footprint T_Hirose_FH12-24S-0.5SV(55) (FFC Connector 0.5mm pitch Vertical)
pins: 1 GND, 2 TMDS_CLK_P, 3 TMDS_CLK_N, 4 GND, 5 TMDS_DATA0_P, 6 TMDS_DATA0_N, 7 GND, 8 TMDS_DATA1_P, 9 TMDS_DATA1_N, 10 GND, 11 TMDS_DATA2_P, 12 TMDS_DATA2_N, 13 VDD, 14 HOTPLUG_DETECT, 15 DDC_CLK, 16 DDC_DATA, 17 GND, 18 CRT_RED, 19 GND, 20 CRT_GREEN, 21 GND, 22 CRT_BLUE, 23 CRT_VSYNC, 24 CRT_HSYNC

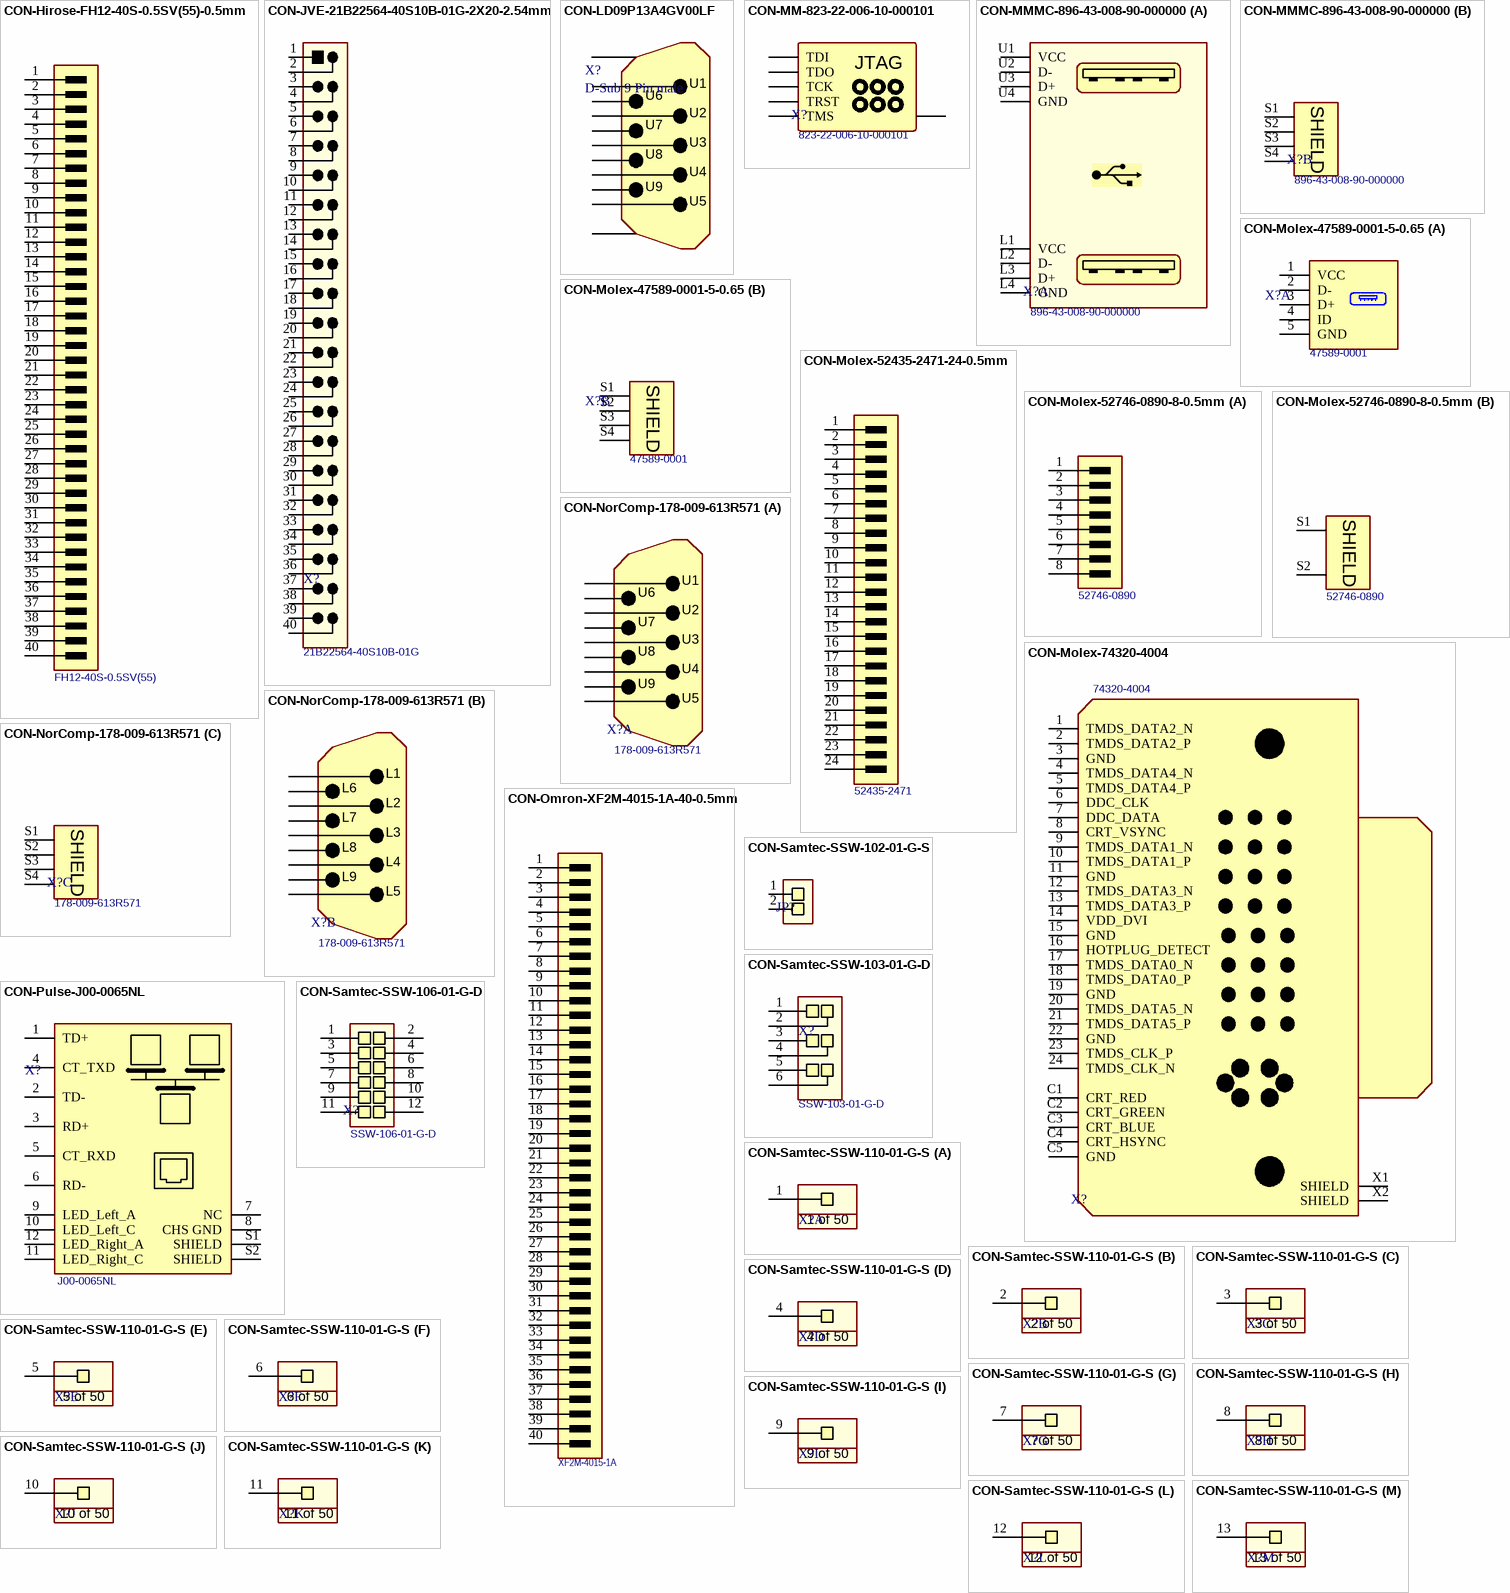
[diagram p3: symbols CON-Hirose-FH12-40S-0.5SV(55)-0.5mm to CON-Samtec-SSW-110-01-G-S]

## CON-Hirose-FH12-40S-0.5SV(55)-0.5mm
designator X?, comment FH12-40S-0.5SV(55)
0.50mm Pitch FFC/FPC Vertical RGB connector; Manufacturer Name: Hirose; No. of ways: 24; Pitch: 0.5mm; PCBChecked: initials after Checked; IPC7352C: initials after Checked; SCHChecked: initials after Checked; Manufacturer Part No.: FH12-40S-0.5SV(55)
footprint T_Hirose_FH12-40S-0.5SV(55) (FFC Connector 0.5mm pitch Vertical)
pins: 1 VSS (power), 2 VSS (power), 3 VCC (power), 4 VCC (power), 5 PWCTRL, 6 LEDCTRL, 7 RESET#, 8 B5, 9 B4, 10 B3, 11 B2, 12 B1, 13 B0, 14 VSS, 15 G5, 16 G4, 17 G3, 18 G2, 19 G1, 20 G0, 21 VSS, 22 R5, 23 R4, 24 R3, 25 R2, 26 R1, 27 R0, 28 DCLK, 29 VSS, 30 HSYNC, 31 VSYNC, 32 ENB, 33 NC, 34 SHUT, 35 VSS, 36 VDD, 37 YU, 38 XR, 39 YD, 40 XL

## CON-JVE-21B22564-40S10B-01G-2X20-2.54mm
designator X?, comment 21B22564-40S10B-01G
2X20 PIN Header 2.54mm; Manufacturer Name: JVE; PCBChecked: initials after Checked; No. of ways: 2X20; IPC7352C: initials after Checked; SCHChecked: initials after Checked; Manufacturer Part No.: 21B22564-40S10B-01G
footprint T_JVE_21B22564-40S10B-01G (Header 2x20)
pins: 1, 2, 3, 4, 5, 6, 7, 8, 9, 10, 11, 12, 13, 14, 15, 16, 17, 18, 19, 20, 21, 22, 23, 24, 25, 26, 27, 28, 29, 30, 31, 32, 33, 34, 35, 36, 37, 38, 39, 40

## CON-LD09P13A4GV00LF
designator X?, comment D-Sub 9 Pin male
Manufacturer Part Number: LD09P13A4GV00LF; Manufacturer: Amphenol FCI; PCBChecked: initials after Checked; Supplier 1: Digi-Key; RoHS: Yes; Category: D-Sub Connectors; Number of Pins: 9; ComponentLink1URL: http://www.amphenol-icc.com/media/wysiwyg/files/drawing/10130913.pdf?src-supplier=Digi-Key; ComponentLink1Description: http://www.amphenol-icc.com/media/wysiwyg/files/drawing/10130913.pdf?src-supplier=Digi-Key; Supplier Part Number 1: 609-5182-ND; Stock 1: 395; IPC7352C: initials after Checked; SCHChecked: initials after Checked
footprint T_TECon_1734351-1 (9 pin male D-SUB connector)
pins: 1 DCD, 2 RXD, 3 TXD, 4 DTR, 5 GND, 6 DSR, 7 RTS, 8 CTS, 9 RI, S1 DCD, S2 DCD
text: U1; U6; U2; U7; U3; U8; U4; U9; U5

## CON-MM-823-22-006-10-000101
designator X?  Manufacturer Part No.: 823-22-006-10-000101  (hidden comment: *)
JTAG Pogo pins; Manufacturer Name: Mill-Max; PCBChecked: initials after Checked; IPC7352C: initials after Checked; SCHChecked: initials after Checked
footprint T_MILL-MAX_823-22-006-10-000101 (Pogo Pins)
pins: 1 TDI, 2 TDO, 3 TCK, 4 TRST, 5 TMS, 6
text: JTAG

## CON-MMMC-896-43-008-90-000000
designator X?, comment 896-43-008-90-000000
USB 2.0 double row, Type A; Manufacturer Name: Mill-Max Mfg. Corp.; No. of ways: 8; PCBChecked: initials after Checked; IPC7352C: initials after Checked; SCHChecked: initials after Checked; Manufacturer Part No.: 896-43-008-90-000000
footprint T_MMMC_896-43-008-90-000000 (USB 2.0 double row, Type A)
part A pins: L1 VCC (power), L2 D-, L3 D+, L4 GND (power), U1 VCC (power), U2 D-, U3 D+, U4 GND (power)
part B pins: S1 SHIELD, S2 SHIELD, S3 SHIELD, S4 SHIELD

## CON-Molex-47589-0001-5-0.65
designator X?  Manufacturer Part No.: 47589-0001
Micro USB OTG Connector; Manufacturer Name: Molex; No. of ways: 5; PCBChecked: initials after Checked; IPC7352C: initials after Checked; SCHChecked: initials after Checked
footprint T_Molex_47589-0001 (Micro USB Connector)
part A pins: 1 VCC (power), 2 D-, 3 D+, 4 ID, 5 GND (power)
part B pins: S1 SHIELD, S2 SHIELD, S3 SHIELD, S4 SHIELD

## CON-Molex-52435-2471-24-0.5mm
designator X?, comment 52435-2471
0.50mm Pitch FFC/FPC DVI Connector; Manufacturer Name: Molex; No. of ways: 24; Pitch: 0.5mm; PCBChecked: initials after Checked; IPC7352C: initials after Checked; SCHChecked: initials after Checked; Manufacturer Part No.: 52435-2471
footprint T_MOLEX_52435-2471 (DVI FFC Connector 0.5mm pitch)
pins: 1 GND, 2 TMDS_CLK_P, 3 TMDS_CLK_N, 4 GND, 5 TMDS_DATA0_P, 6 TMDS_DATA0_N, 7 GND, 8 TMDS_DATA1_P, 9 TMDS_DATA1_N, 10 GND, 11 TMDS_DATA2_P, 12 TMDS_DATA2_N, 13 VDD, 14 HOTPLUG_DETECT, 15 DDC_CLK, 16 DDC_DATA, 17 GND, 18 CRT_RED, 19 GND, 20 CRT_GREEN, 21 GND, 22 CRT_BLUE, 23 CRT_VSYNC, 24 CRT_HSYNC

## CON-Molex-52746-0890-8-0.5mm
designator X?, comment 52746-0890
0.50mm Pitch FFC/FPC JTAG Connector; Manufacturer Name: Molex; No. of ways: 8; Pitch: 0.5mm; PCBChecked: initials after Checked; IPC7352C: initials after Checked; SCHChecked: initials after Checked; Manufacturer Part No.: 52746-0890
footprint T_MOLEX_52746-0890 (JTAG FFC Connector 0.5mm pitch)
part A pins: 1, 2, 3, 4, 5, 6, 7, 8
part B pins: S1 SHIELD, S2 SHIELD

## CON-Molex-74320-4004
designator X?, comment 74320-4004
DVI-Connectors; Manufacturer Name: Molex; No. of ways: 31; PCBChecked: initials after Checked; IPC7352C: initials after Checked; SCHChecked: initials after Checked; Manufacturer Part No.: 74320-4004
footprint T_Molex_74320-1004 (DVI-Connectors)
pins: 1 TMDS_DATA2_N, 2 TMDS_DATA2_P, 3 GND, 4 TMDS_DATA4_N, 5 TMDS_DATA4_P, 6 DDC_CLK, 7 DDC_DATA, 8 CRT_VSYNC, 9 TMDS_DATA1_N, 10 TMDS_DATA1_P, 11 GND, 12 TMDS_DATA3_N, 13 TMDS_DATA3_P, 14 VDD_DVI, 15 GND, 16 HOTPLUG_DETECT, 17 TMDS_DATA0_N, 18 TMDS_DATA0_P, 19 GND, 20 TMDS_DATA5_N, 21 TMDS_DATA5_P, 22 GND, 23 TMDS_CLK_P, 24 TMDS_CLK_N, C1 CRT_RED, C2 CRT_GREEN, C3 CRT_BLUE, C4 CRT_HSYNC, C5 GND, X1 SHIELD, X2 SHIELD

## CON-NorComp-178-009-613R571
designator X?, comment 178-009-613R571
RS232 Connector 9 pins male; Manufacturer Name: NorComp; No. of Ways: 18; PCBChecked: initials after Checked; IPC7352C: initials after Checked; SCHChecked: initials after Checked; Manufacturer Part No.: 178-009-613R571
footprint T_NorComp_178-YYY-613R691 (0.750 Center Dual Port D-Sub - Male over Male)
part A pins: U1 DCD, U2 RXD, U3 TXD, U4 DTR, U5 GND, U6 DSR, U7 RTS, U8 CTS, U9 RI
part B pins: L1 DCD, L2 RXD, L3 TXD, L4 DTR, L5 GND, L6 DSR, L7 RTS, L8 CTS, L9 RI
part C pins: S1 SHIELD, S2 SHIELD, S3 SHIELD, S4 SHIELD

## CON-Omron-XF2M-4015-1A-40-0.5mm
designator X?, comment XF2M-4015-1A
RGB Connector; Manufacturer Name: Omron; No. of ways: 40; Pitch: 0.5mm; PCBChecked: initials after Checked; IPC7352C: initials after Checked; SCHChecked: initials after Checked; Manufacturer Part No.: XF2M-4015-1A
footprint T_Omron_XF2M-4015-1A (DVI FFC Connector 0.5mm pitch)
pins: 1 VSS (power), 2 VSS (power), 3 VCC (power), 4 VCC (power), 5 PWCTRL, 6 LEDCTRL, 7 RESET#, 8 B5, 9 B4, 10 B3, 11 B2, 12 B1, 13 B0, 14 VSS, 15 G5, 16 G4, 17 G3, 18 G2, 19 G1, 20 G0, 21 VSS, 22 R5, 23 R4, 24 R3, 25 R2, 26 R1, 27 R0, 28 DCLK, 29 VSS, 30 HSYNC, 31 VSYNC, 32 ENB, 33 NC, 34 SHUT, 35 VSS, 36 VDD, 37 YU, 38 XR, 39 YD, 40 XL

## CON-Pulse-J00-0065NL
designator X?, comment J00-0065NL
RJ45 Connector; Manufacturer Name: Pulse; No. of ways: 12; PCBChecked: initials after Checked; IPC7352C: initials after Checked; SCHChecked: initials after Checked; Manufacturer Part No.: J00-0065NL
footprint T_Pulse_J00-0065NL (RJ45 Connector)
pins: 1 TD+, 2 TD-, 3 RD+, 4 CT_TXD, 5 CT_RXD, 6 RD-, 7 NC, 8 CHS GND, 9 LED_Left_A, 10 LED_Left_C, 11 LED_Right_C, 12 LED_Right_A, S1 SHIELD, S2 SHIELD

## CON-Samtec-SSW-102-01-G-S
designator JP?, comment SSW-102-01-G-S  (value not drawn)
Receptacle Female, 1x2 Pins, 2.54 mm pitch; Manufacturer Name: Samtec; Pitch: 2.54 mm; PCBChecked: initials after Checked; No. of ways: 1x2; Manufacturer Part no.: SSW-102-01-G-S; IPC7352C: initials after Checked; SCHChecked: initials after Checked
footprint T_Samtec_SSW-102-01-G-S (Header, 1x50 Pins, 2.54 mm pitch)
pins: 1, 2

## CON-Samtec-SSW-103-01-G-D
designator X?, comment Manufacturer Part No.: SSW-103-01-G-D  (hidden comment: TSW-103-01-G-D)
Header Female, 2x3 Pins, 2.54mm pitch; Manufacturer Name: Samtec; PCBChecked: initials after Checked; No. of ways: 2x3; Pitch: 2.54mm; IPC7352C: initials after Checked; SCHChecked: initials after Checked
footprint T_Samtec_SSW-103-01-G-D (Header, 2x3 Pins, 2.54 mm pitch)
pins: 1, 2, 3, 4, 5, 6

## CON-Samtec-SSW-106-01-G-D
designator X?, comment SSW-106-01-G-D
Header Female, 2x6 Pins, 2.54 mm pitch; Manufacturer Name: Samtec; Pitch: 2.54mm; PCBChecked: initials after Checked; No. of wasy: 2x6; IPC7352C: initials after Checked; SCHChecked: initials after Checked; Manufacturer Part No.: SSW-106-01-G-D
footprint T_Samtec_SSW-106-01-G-D (Header, 2x6 Pins, 2.54 mm pitch)
pins: 1, 2, 3, 4, 5, 6, 7, 8, 9, 10, 11, 12

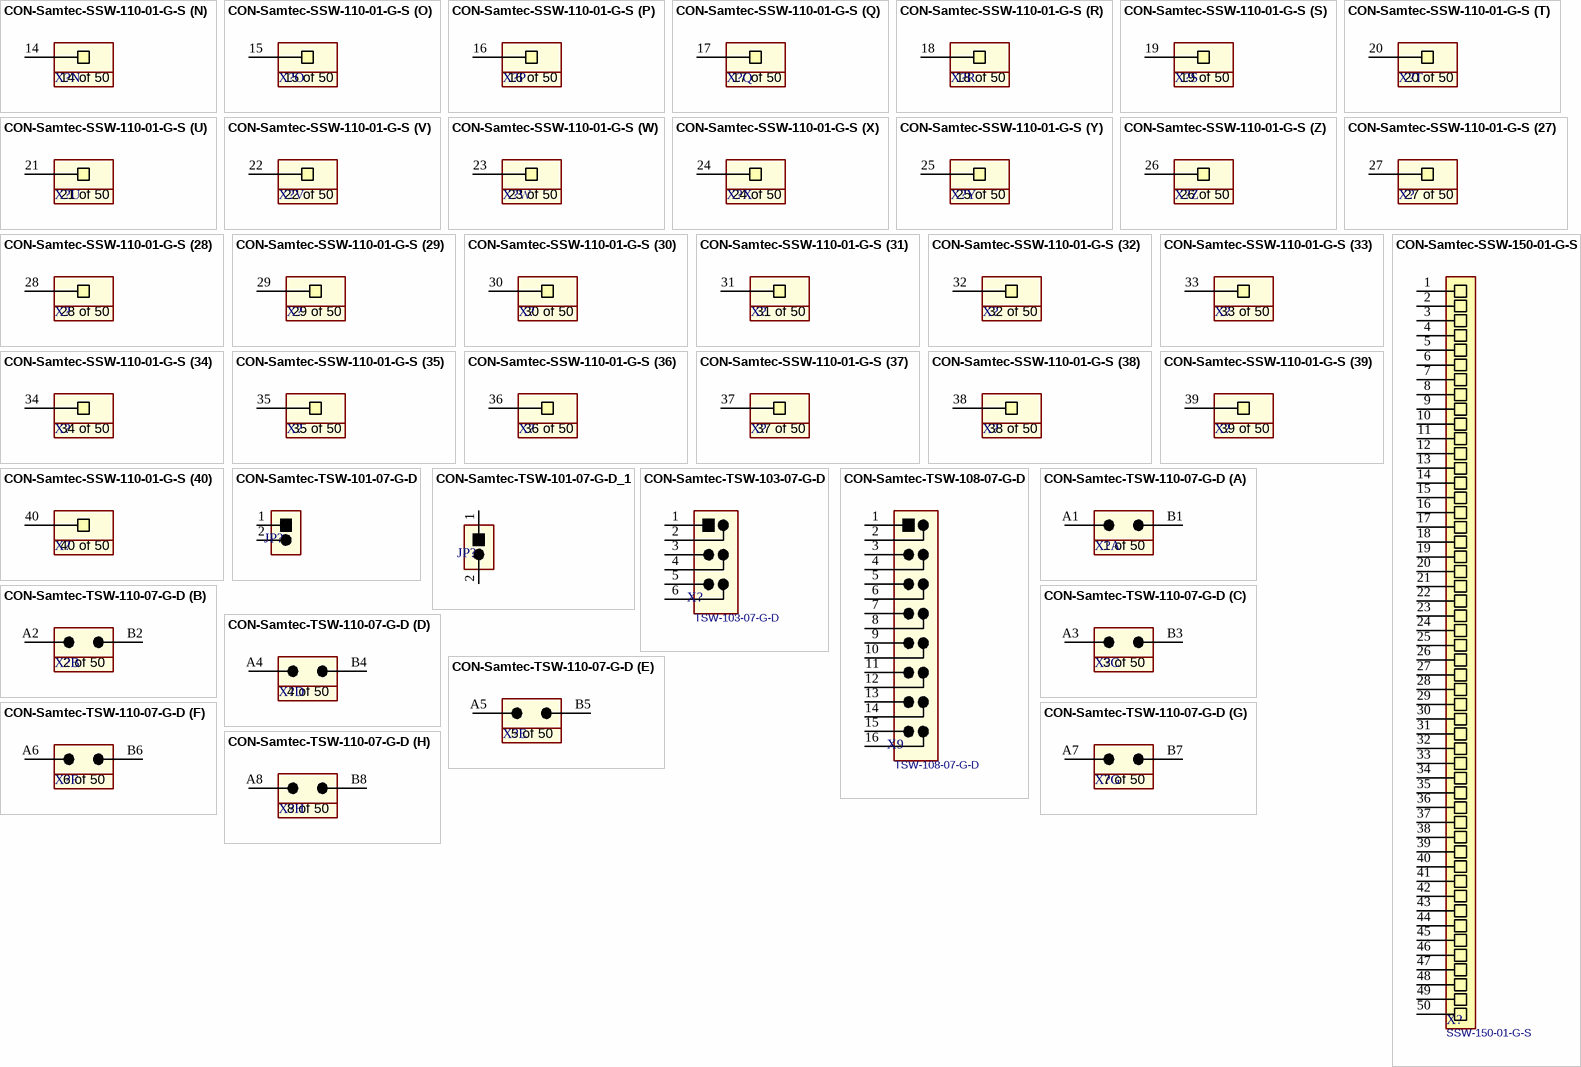
[diagram p4: symbols CON-Samtec-SSW-110-01-G-S to CON-Samtec-TSW-110-07-G-D]

## CON-Samtec-SSW-110-01-G-S
designator X?, comment SSW-110-01-G-S  (value not drawn)
Header 1x50 pin 2.54mm pitch; Manufacturer Name: Samtec; PCBChecked: initials after Checked; Pitch: 2.54mm; No. of ways: 1x50; Manufacturer Part No.: SSW-110-01-G-S; IPC7352C: initials after Checked; SCHChecked: initials after Checked
footprint T_Samtec_SSW-110-01-G-S (Header, 1x50 Pins, 2.54 mm pitch)
part A pins: 1
part B pins: 2
part C pins: 3
part D pins: 4
part E pins: 5
part F pins: 6
part G pins: 7
part H pins: 8
part I pins: 9
part J pins: 10
part K pins: 11
part L pins: 12
part M pins: 13
part N pins: 14
part O pins: 15
part P pins: 16
part Q pins: 17
part R pins: 18
part S pins: 19
part T pins: 20
part U pins: 21
part V pins: 22
part W pins: 23
part X pins: 24
part Y pins: 25
part Z pins: 26
part 27 pins: 27
part 28 pins: 28
part 29 pins: 29
part 30 pins: 30
part 31 pins: 31
part 32 pins: 32
part 33 pins: 33
part 34 pins: 34
part 35 pins: 35
part 36 pins: 36
part 37 pins: 37
part 38 pins: 38
part 39 pins: 39
part 40 pins: 40
part 41 pins: 41
part 42 pins: 42
part 43 pins: 43
part 44 pins: 44
part 45 pins: 45
part 46 pins: 46
part 47 pins: 47
part 48 pins: 48
part 49 pins: 49
part 50 pins: 50
part A text: 1 of 50
part B text: 2 of 50
part C text: 3 of 50
part D text: 4 of 50
part E text: 5 of 50
part F text: 6 of 50
part G text: 7 of 50
part H text: 8 of 50
part I text: 9 of 50
part J text: 10 of 50
part K text: 11 of 50
part L text: 12 of 50
part M text: 13 of 50
part N text: 14 of 50
part O text: 15 of 50
part P text: 16 of 50
part Q text: 17 of 50
part R text: 18 of 50
part S text: 19 of 50
part T text: 20 of 50
part U text: 21 of 50
part V text: 22 of 50
part W text: 23 of 50
part X text: 24 of 50
part Y text: 25 of 50
part Z text: 26 of 50
part 27 text: 27 of 50
part 28 text: 28 of 50
part 29 text: 29 of 50
part 30 text: 30 of 50
part 31 text: 31 of 50
part 32 text: 32 of 50
part 33 text: 33 of 50
part 34 text: 34 of 50
part 35 text: 35 of 50
part 36 text: 36 of 50
part 37 text: 37 of 50
part 38 text: 38 of 50
part 39 text: 39 of 50
part 40 text: 40 of 50
part 41 text: 41 of 50
part 42 text: 42 of 50
part 43 text: 43 of 50
part 44 text: 44 of 50
part 45 text: 45 of 50
part 46 text: 46 of 50
part 47 text: 47 of 50
part 48 text: 48 of 50
part 49 text: 49 of 50
part 50 text: 50 of 50

## CON-Samtec-SSW-150-01-G-S
designator X?, comment SSW-150-01-G-S
Header 1x50 pin 2.54mm pitch; Manufacturer Name: Samtec; PCBChecked: initials after Checked; Pitch: 2.54mm; No. of ways: 1x50; IPC7352C: initials after Checked; SCHChecked: initials after Checked; Manufacturer Part No.: SSW-150-01-G-S
footprint T_Samtec_SSW-150-01-G-S (Header, 1x50 Pins, 2.54 mm pitch)
pins: 1, 2, 3, 4, 5, 6, 7, 8, 9, 10, 11, 12, 13, 14, 15, 16, 17, 18, 19, 20, 21, 22, 23, 24, 25, 26, 27, 28, 29, 30, 31, 32, 33, 34, 35, 36, 37, 38, 39, 40, 41, 42, 43, 44, 45, 46, 47, 48, 49, 50

## CON-Samtec-TSW-101-07-G-D
designator JP?, comment TSW-101-07-G-D  (value not drawn)
Header male, 1x2 Pins, 2.54 mm pitch; Manufacturer Name: Samtec; Pitch: 2.54 mm; PCBChecked: initials after Checked; No. of ways: 1x2; Manufacturer Part no.: TSW-101-07-G-D; IPC7352C: initials after Checked; SCHChecked: initials after Checked
footprint T_Samtec_TSW-101-07-G-D (Header, 1x2 Pins, 2.54 mm pitch, male)
pins: 1, 2

## CON-Samtec-TSW-101-07-G-D_1
designator JP?, comment TSW-101-07-G-D  (value not drawn)
Header male, 1x2 Pins, 2.54 mm pitch; Manufacturer Name: Samtec; Pitch: 2.54 mm; PCBChecked: initials after Checked; No. of ways: 1x2; Manufacturer Part no.: TSW-101-07-G-D; IPC7352C: initials after Checked; SCHChecked: initials after Checked
footprint T_Samtec_TSW-101-07-G-D (Header, 1x2 Pins, 2.54 mm pitch, male)
pins: 1, 2

## CON-Samtec-TSW-103-07-G-D
designator X?, comment TSW-103-07-G-D
Header Male, 2x3 Pins, 2.54mm pitch; Manufacturer Name: Samtec; PCBChecked: initials after Checked; No. of. ways: 2x3; Pitch: 2.54mm; IPC7352C: initials after Checked; SCHChecked: initials after Checked; Manufacturer Part No.: TSW-103-07-G-D
footprint T_Samtec_TSW-103-07-G-D (Header, 2x3 Pins, 2.54 mm pitch, male)
pins: 1, 2, 3, 4, 5, 6

## CON-Samtec-TSW-108-07-G-D
designator X9, comment TSW-108-07-G-D
Header Male, 2x8 Pins, 2.54mm pitch; Manufacturer Name: Samtec; PCBChecked: initials after Checked; No. of ways: 2x8; Pitch: 2.54mm; IPC7352C: initials after Checked; SCHChecked: initials after Checked; Manufacturer Part No.: TSW-108-07-G-D
footprint T_Samtec_TSW-108-07-G-D (Header, 2x8 Pins, 2.54 mm pitch, male)
pins: 1, 2, 3, 4, 5, 6, 7, 8, 9, 10, 11, 12, 13, 14, 15, 16

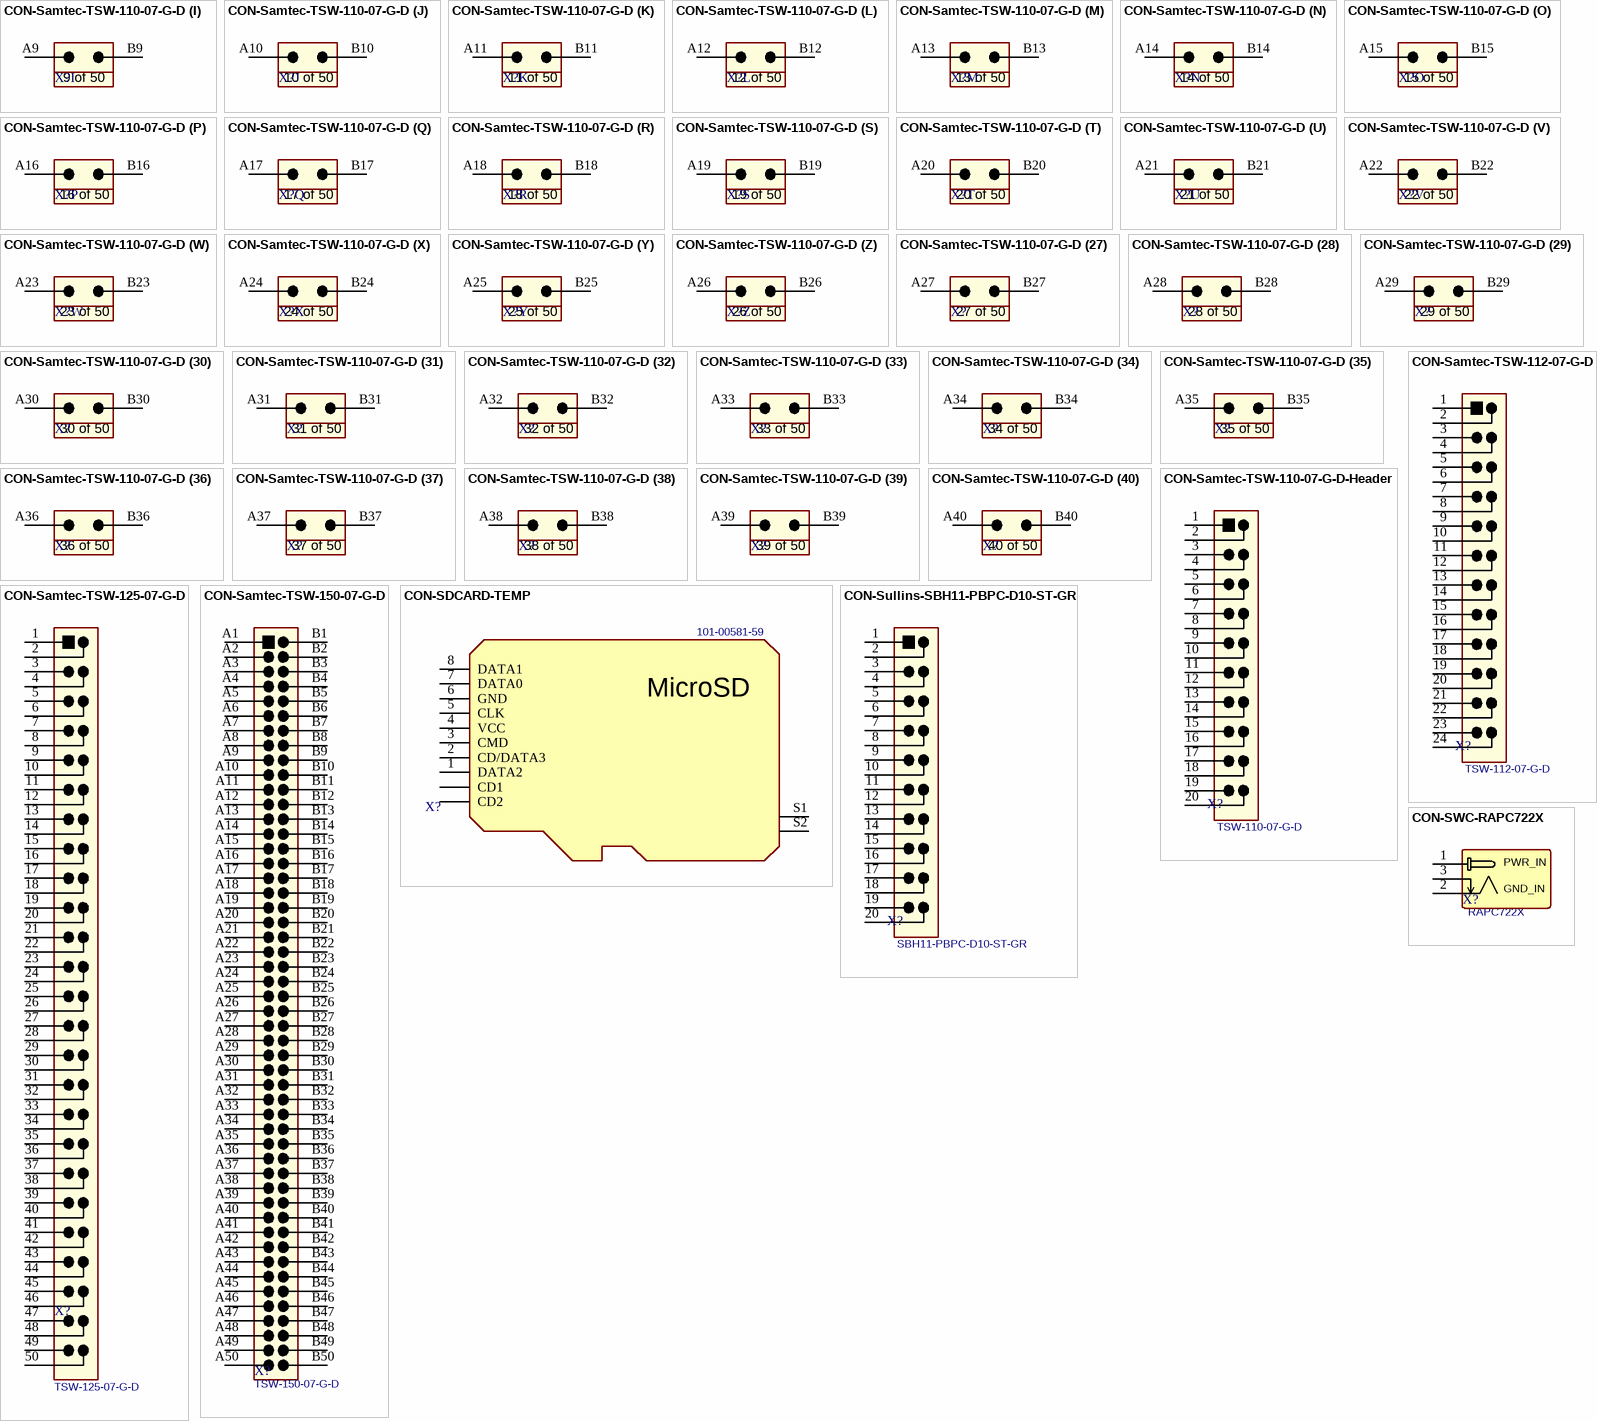
[diagram p5: symbols CON-Samtec-TSW-110-07-G-D to CON-SWC-RAPC722X]

## CON-Samtec-TSW-110-07-G-D
designator X?, comment TSW-110-07-G-D  (value not drawn)
Header 2x50 pin 2.54mm pitch; Manufacturer Name: Samtec; PCBChecked: initials after Checked; Pitch: 2.54mm; No. of ways: 2x50; Manufacturer Part No.: TSW-110-07-G-D; IPC7352C: initials after Checked; SCHChecked: initials after Checked
footprint T_Samtec_TSW-110-07-G-D (Header 2x50 pin 2.54mm pitch)
part A pins: A1, B1
part B pins: A2, B2
part C pins: A3, B3
part D pins: A4, B4
part E pins: A5, B5
part F pins: A6, B6
part G pins: A7, B7
part H pins: A8, B8
part I pins: A9, B9
part J pins: A10, B10
part K pins: A11, B11
part L pins: A12, B12
part M pins: A13, B13
part N pins: A14, B14
part O pins: A15, B15
part P pins: A16, B16
part Q pins: A17, B17
part R pins: A18, B18
part S pins: A19, B19
part T pins: A20, B20
part U pins: A21, B21
part V pins: A22, B22
part W pins: A23, B23
part X pins: A24, B24
part Y pins: A25, B25
part Z pins: A26, B26
part 27 pins: A27, B27
part 28 pins: A28, B28
part 29 pins: A29, B29
part 30 pins: A30, B30
part 31 pins: A31, B31
part 32 pins: A32, B32
part 33 pins: A33, B33
part 34 pins: A34, B34
part 35 pins: A35, B35
part 36 pins: A36, B36
part 37 pins: A37, B37
part 38 pins: A38, B38
part 39 pins: A39, B39
part 40 pins: A40, B40
part 41 pins: A41, B41
part 42 pins: A42, B42
part 43 pins: A43, B43
part 44 pins: A44, B44
part 45 pins: A45, B45
part 46 pins: A46, B46
part 47 pins: A47, B47
part 48 pins: A48, B48
part 49 pins: A49, B49
part 50 pins: A50, B50
part A text: 1 of 50
part B text: 2 of 50
part C text: 3 of 50
part D text: 4 of 50
part E text: 5 of 50
part F text: 6 of 50
part G text: 7 of 50
part H text: 8 of 50
part I text: 9 of 50
part J text: 10 of 50
part K text: 11 of 50
part L text: 12 of 50
part M text: 13 of 50
part N text: 14 of 50
part O text: 15 of 50
part P text: 16 of 50
part Q text: 17 of 50
part R text: 18 of 50
part S text: 19 of 50
part T text: 20 of 50
part U text: 21 of 50
part V text: 22 of 50
part W text: 23 of 50
part X text: 24 of 50
part Y text: 25 of 50
part Z text: 26 of 50
part 27 text: 27 of 50
part 28 text: 28 of 50
part 29 text: 29 of 50
part 30 text: 30 of 50
part 31 text: 31 of 50
part 32 text: 32 of 50
part 33 text: 33 of 50
part 34 text: 34 of 50
part 35 text: 35 of 50
part 36 text: 36 of 50
part 37 text: 37 of 50
part 38 text: 38 of 50
part 39 text: 39 of 50
part 40 text: 40 of 50
part 41 text: 41 of 50
part 42 text: 42 of 50
part 43 text: 43 of 50
part 44 text: 44 of 50
part 45 text: 45 of 50
part 46 text: 46 of 50
part 47 text: 47 of 50
part 48 text: 48 of 50
part 49 text: 49 of 50
part 50 text: 50 of 50

## CON-Samtec-TSW-110-07-G-D-Header
designator X?, comment TSW-110-07-G-D
Header male, 2x10 pin 2.54mm pitch; Manufacturer Name: Samtec; PCBChecked: initials after Checked; No. of ways: 2x10; Pitch: 2.54mm; IPC7352C: initials after Checked; SCHChecked: initials after Checked; Manufacturer Part No.: TSW-110-07-G-D
footprint T_Samtec_TSW-110-07-G-D-Header (Header, 2x10 Pins, 2.54 mm pitch)
pins: 1, 2, 3, 4, 5, 6, 7, 8, 9, 10, 11, 12, 13, 14, 15, 16, 17, 18, 19, 20

## CON-Samtec-TSW-112-07-G-D
designator X?, comment TSW-112-07-G-D
Header male, 2x12 Pins, 2.54 mm pitch; Manufacturer Name: Samtec; Pitch: 2.54 mm; PCBChecked: initials after Checked; No. of ways: 2x12; IPC7352C: initials after Checked; SCHChecked: initials after Checked; Manufacturer Part No.: TSW-112-07-G-D
footprint T_Samtec_TSW-112-07-G-D (Header, 2x12 Pins, 2.54 mm pitch, male)
pins: 1, 2, 3, 4, 5, 6, 7, 8, 9, 10, 11, 12, 13, 14, 15, 16, 17, 18, 19, 20, 21, 22, 23, 24

## CON-Samtec-TSW-125-07-G-D
designator X?, comment TSW-125-07-G-D
Header, 2x25 Pins, 2.54 mm pitch; Manufacturer Name: Samtec; Pitch: 2.54mm; PCBChecked: initials after Checked; No. of ways: 2x25; IPC7352C: initials after Checked; SCHChecked: initials after Checked; Manufacturer Part No.: TSW-125-07-G-D
footprint T_SAMTEC_TSW-125-07-G-D (Header, 2x25 Pins, 2.54 mm pitch)
pins: 1, 2, 3, 4, 5, 6, 7, 8, 9, 10, 11, 12, 13, 14, 15, 16, 17, 18, 19, 20, 21, 22, 23, 24, 25, 26, 27, 28, 29, 30, 31, 32, 33, 34, 35, 36, 37, 38, 39, 40, 41, 42, 43, 44, 45, 46, 47, 48, 49, 50

## CON-Samtec-TSW-150-07-G-D
designator X?, comment TSW-150-07-G-D
Header 2x50 pin 2.54mm pitch; Manufacturer Name: Samtec; No. of ways: 2x10; PCBChecked: initials after Checked; Pitch: 2.54mm; IPC7352C: initials after Checked; SCHChecked: initials after Checked; Manufacturer Part No.: TSW-150-07-G-D
footprint T_Samtec_TSW-150-07-G-D (Header 2x50 pin 2.54mm pitch)
pins: A1, A2, A3, A4, A5, A6, A7, A8, A9, A10, A11, A12, A13, A14, A15, A16, A17, A18, A19, A20, A21, A22, A23, A24, A25, A26, A27, A28, A29, A30, A31, A32, A33, A34, A35, A36, A37, A38, A39, A40, A41, A42, A43, A44, A45, A46, A47, A48, A49, A50, B1, B2, B3, B4, B5, B6, B7, B8, B9, B10, B11, B12, B13, B14, B15, B16, B17, B18, B19, B20, B21, B22, B23, B24, B25, B26, B27, B28, B29, B30, B31, B32, B33, B34, B35, B36, B37, B38, B39, B40, B41, B42, B43, B44, B45, B46, B47, B48, B49, B50

## CON-SDCARD-TEMP
designator X?, comment Manufacturer Part No.: 101-00581-59  (hidden comment: MicroSD Holder)
Micro SD Holder Push Push CD; Manufacturer Name: Ampenol; No. of ways: 9; PCBChecked: initials after Checked; IPC7352C: initials after Checked; SCHChecked: initials after Checked
footprint T_SD_CARD_TEMP
pins: 1 DATA2 (power), 2 CD/DATA3, 3 CMD, 4 VCC, 5 CLK (power), 6 GND (power), 7 DATA0 (power), 8 DATA1 (power), CD1 (power), CD2 (power), S1 S, S2 S
text: MicroSD

## CON-Sullins-SBH11-PBPC-D10-ST-GR
designator X?, comment SBH11-PBPC-D10-ST-GR
Header shrouded male, 2x10 pin 2.54mm pitch; Manufacturer Name: Sullins; PCBChecked: initials after Checked; No. of ways: 2x10; Pitch: 2.54mm; IPC7352C: initials after Checked; SCHChecked: initials after Checked; Manufacturer Part No.: SBH11-PBPC-D10-ST-GR
footprint T_Sullins_SBH11-PBPC-D10-ST-GR (Header shrouded, 2x10 Pins, 2.54 mm pitch)
pins: 1, 2, 3, 4, 5, 6, 7, 8, 9, 10, 11, 12, 13, 14, 15, 16, 17, 18, 19, 20

## CON-SWC-RAPC722X
designator X?, comment RAPC722X
Power Jack; Manufacturer Name: SWC; PCBChecked: initials after Checked; IPC7352C: initials after Checked; SCHChecked: initials after Checked; Manufacturer Part No.: RAPC722X
footprint T_DCJ20-0014TB-L (Header, 1x2 Pins, 2.54 mm pitch, male)
pins: 1 GND_IN, 2 PWR_IN, 3 PWR_IN

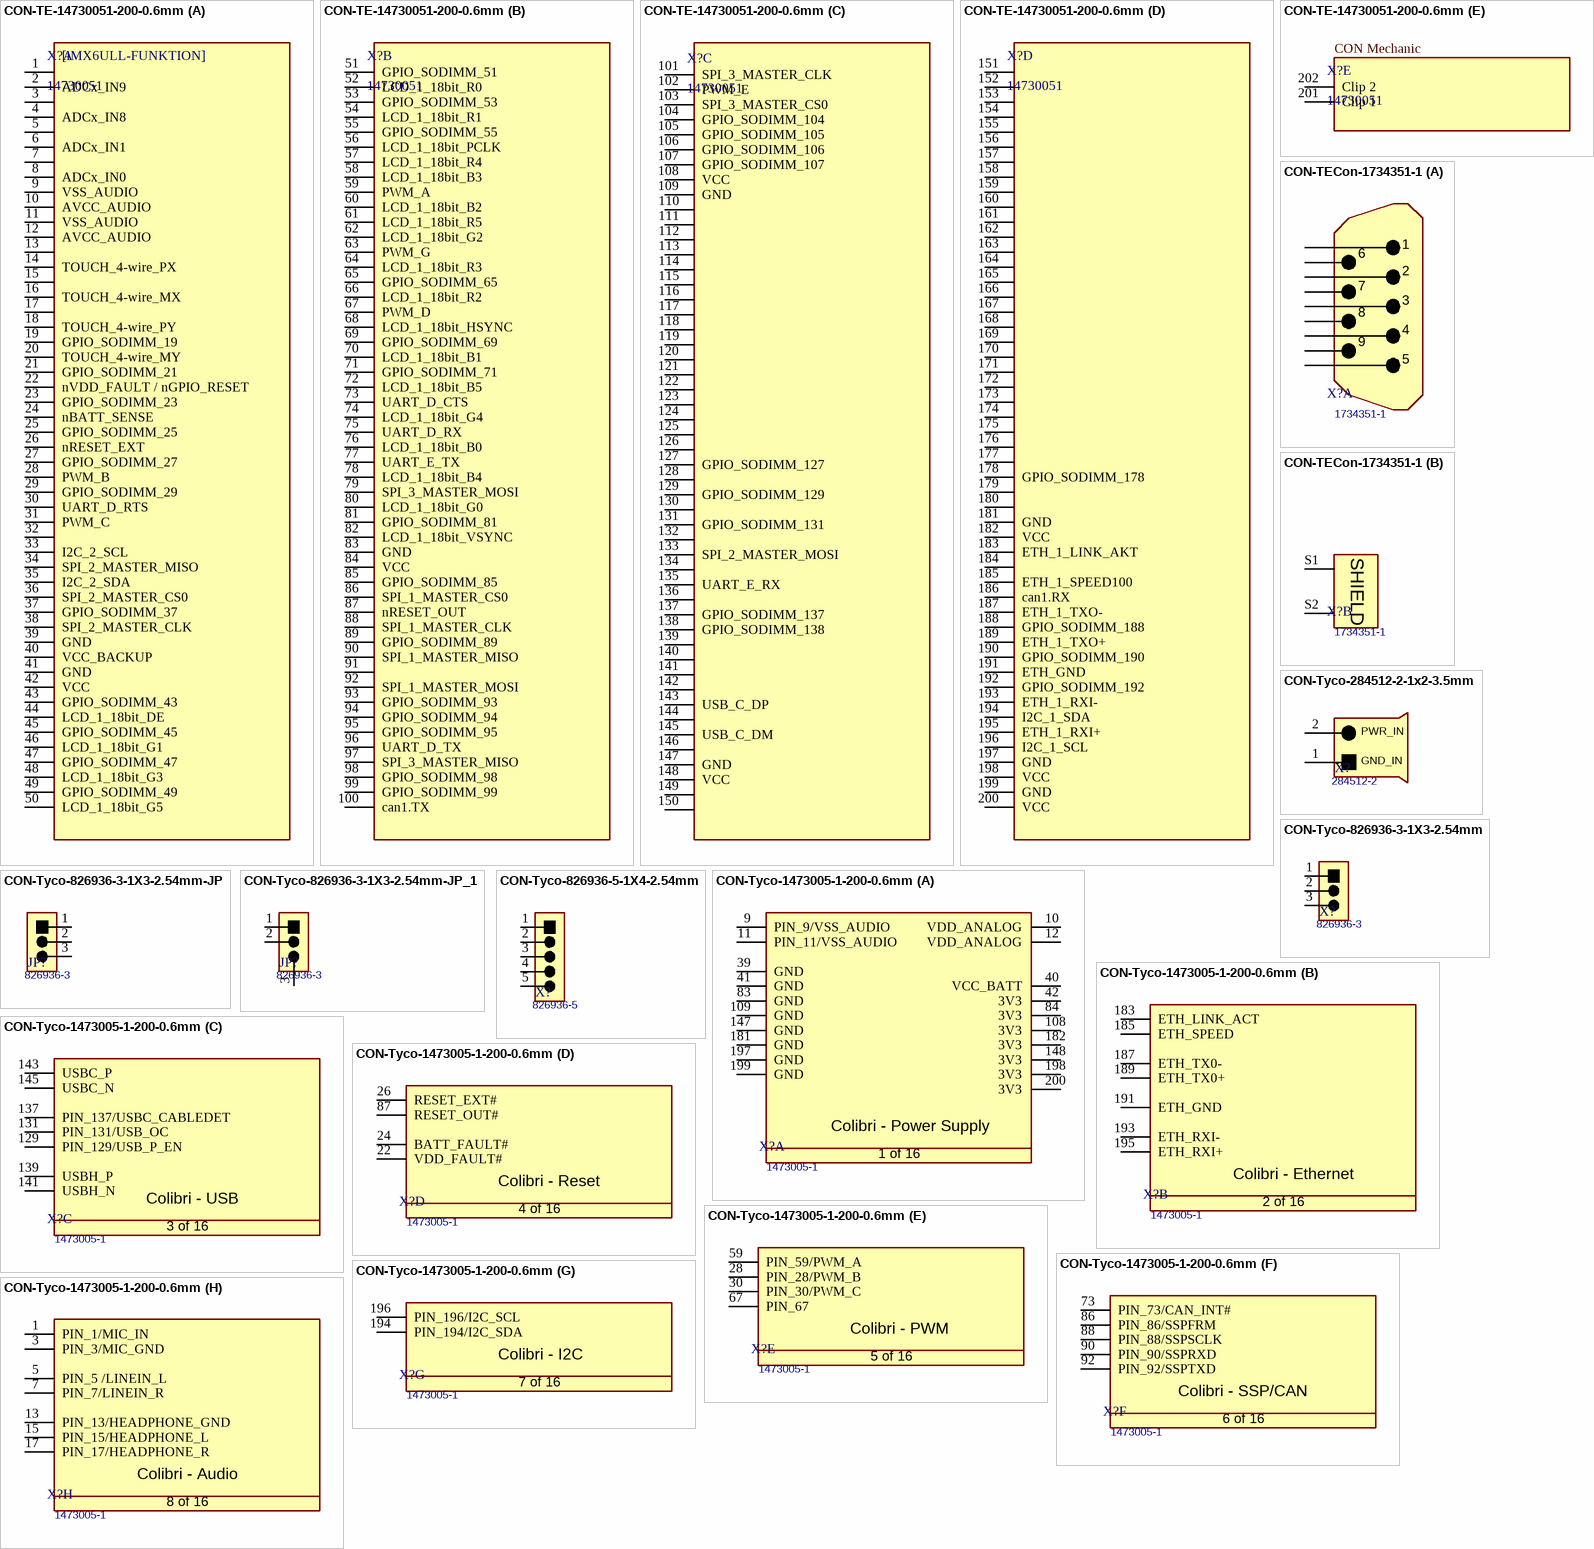
[diagram p6: symbols CON-TE-14730051-200-0.6mm to CON-Tyco-1473005-1-200-0.6mm]